# Altium schematic symbol library MCU_Texas_MSP430.SchLib: 361 symbols (part 5 of 7)
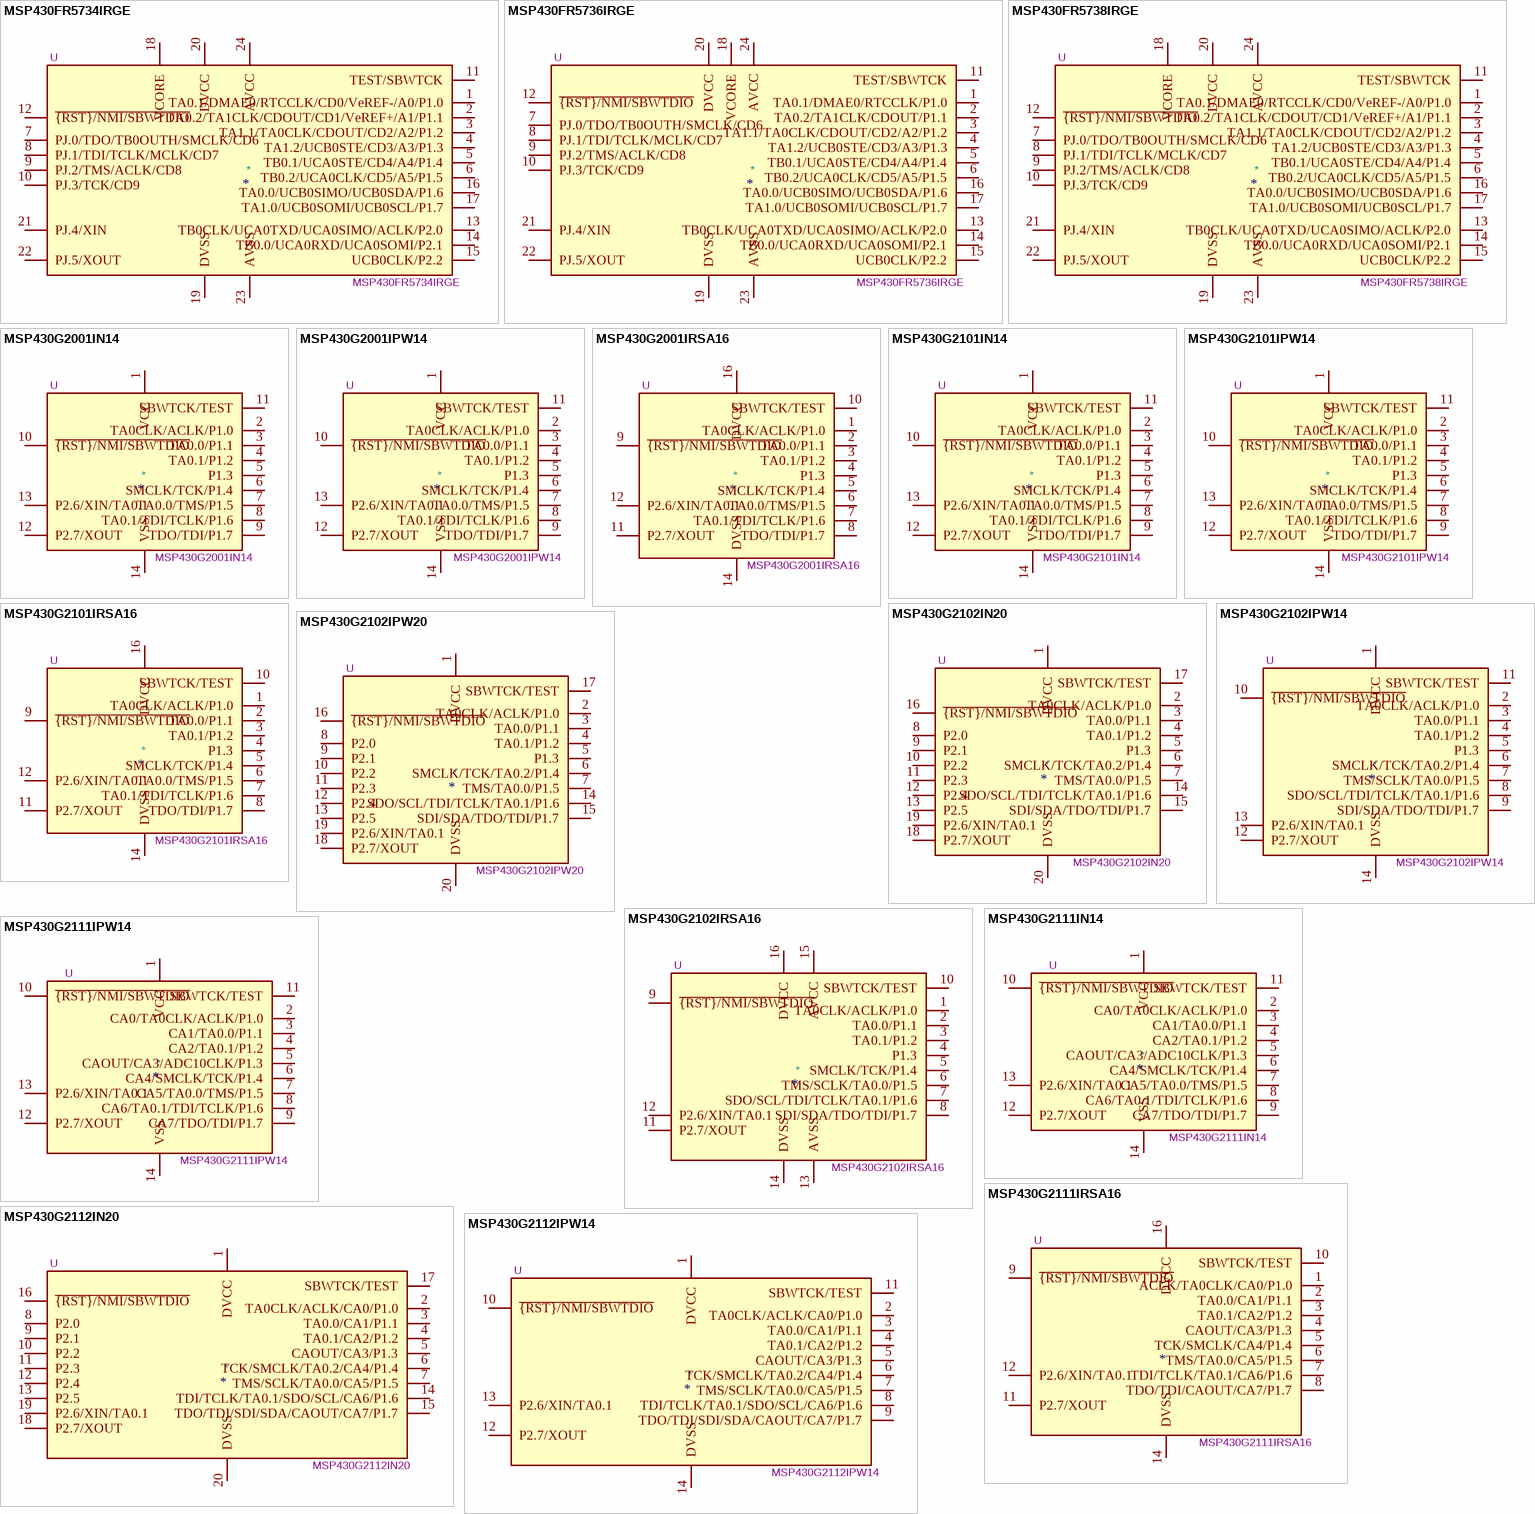
[diagram p38: symbols MSP430FR5734IRGE to MSP430G2112IPW14]

## MSP430G2001IPW14
designator *  value MSP430G2001IPW14  Reference: U
ki_keywords: TI MSP430 16-bit mixed signal microcontroller; ki_description: 512B Flash, 128B RAM, TSSOP-14; ki_fp_filters: TSSOP*4.4x5mm*P0.65mm*; Footprint: Package_SO:TSSOP-14_4.4x5mm_P0.65mm; Datasheet: http://www.ti.com/lit/ds/symlink/msp430g2001.pdf
pins: 1 VCC, 2 TA0CLK/ACLK/P1.0, 3 TA0.0/P1.1, 4 TA0.1/P1.2, 5 P1.3, 6 SMCLK/TCK/P1.4, 7 TA0.0/TMS/P1.5, 8 TA0.1/TDI/TCLK/P1.6, 9 TDO/TDI/P1.7, 10 ~{{RST}/NMI/SBWTDIO}, 11 SBWTCK/TEST, 12 P2.7/XOUT, 13 P2.6/XIN/TA0.1, 14 VSS

## MSP430G2001IRSA16
designator *  value MSP430G2001IRSA16  Reference: U
ki_keywords: TI MSP430 16-bit mixed signal microcontroller; ki_description: 512B Flash, 128B RAM, QFN-16; ki_fp_filters: Texas*S?PVQFN*; Footprint: Package_DFN_QFN:Texas_S-PVQFN-N16_EP2.7x2.7mm; Datasheet: http://www.ti.com/lit/ds/symlink/msp430g2001.pdf
pins: 1 TA0CLK/ACLK/P1.0, 2 TA0.0/P1.1, 3 TA0.1/P1.2, 4 P1.3, 5 SMCLK/TCK/P1.4, 6 TA0.0/TMS/P1.5, 7 TA0.1/TDI/TCLK/P1.6, 8 TDO/TDI/P1.7, 9 ~{{RST}/NMI/SBWTDIO}, 10 SBWTCK/TEST, 11 P2.7/XOUT, 12 P2.6/XIN/TA0.1, 14 DVSS, 16 DVCC

## MSP430G2101IN14
designator *  value MSP430G2101IN14  Reference: U
ki_keywords: TI MSP430 16-bit mixed signal microcontroller; ki_description: 1kB Flash, 128B RAM, DIP-14; ki_fp_filters: DIP*W7.62mm*; Footprint: Package_DIP:DIP-14_W7.62mm; Datasheet: http://www.ti.com/lit/ds/symlink/msp430g2101.pdf
pins: 1 VCC, 2 TA0CLK/ACLK/P1.0, 3 TA0.0/P1.1, 4 TA0.1/P1.2, 5 P1.3, 6 SMCLK/TCK/P1.4, 7 TA0.0/TMS/P1.5, 8 TA0.1/TDI/TCLK/P1.6, 9 TDO/TDI/P1.7, 10 ~{{RST}/NMI/SBWTDIO}, 11 SBWTCK/TEST, 12 P2.7/XOUT, 13 P2.6/XIN/TA0.1, 14 VSS

## MSP430G2101IPW14
designator *  value MSP430G2101IPW14  Reference: U
ki_keywords: TI MSP430 16-bit mixed signal microcontroller; ki_description: 1kB Flash, 128B RAM, TSSOP-14; ki_fp_filters: TSSOP*4.4x5mm*P0.65mm*; Footprint: Package_SO:TSSOP-14_4.4x5mm_P0.65mm; Datasheet: http://www.ti.com/lit/ds/symlink/msp430g2101.pdf
pins: 1 VCC, 2 TA0CLK/ACLK/P1.0, 3 TA0.0/P1.1, 4 TA0.1/P1.2, 5 P1.3, 6 SMCLK/TCK/P1.4, 7 TA0.0/TMS/P1.5, 8 TA0.1/TDI/TCLK/P1.6, 9 TDO/TDI/P1.7, 10 ~{{RST}/NMI/SBWTDIO}, 11 SBWTCK/TEST, 12 P2.7/XOUT, 13 P2.6/XIN/TA0.1, 14 VSS

## MSP430G2101IRSA16
designator *  value MSP430G2101IRSA16  Reference: U
ki_keywords: TI MSP430 16-bit mixed signal microcontroller; ki_description: 1kB Flash, 128B RAM, QFN-16; ki_fp_filters: Texas*S?PVQFN*; Footprint: Package_DFN_QFN:Texas_S-PVQFN-N16_EP2.7x2.7mm; Datasheet: http://www.ti.com/lit/ds/symlink/msp430g2101.pdf
pins: 1 TA0CLK/ACLK/P1.0, 2 TA0.0/P1.1, 3 TA0.1/P1.2, 4 P1.3, 5 SMCLK/TCK/P1.4, 6 TA0.0/TMS/P1.5, 7 TA0.1/TDI/TCLK/P1.6, 8 TDO/TDI/P1.7, 9 ~{{RST}/NMI/SBWTDIO}, 10 SBWTCK/TEST, 11 P2.7/XOUT, 12 P2.6/XIN/TA0.1, 14 DVSS, 16 DVCC

## MSP430G2102IN20
designator *  value MSP430G2102IN20  Reference: U
ki_keywords: TI MSP430 16-bit mixed signal microcontroller; ki_description: 1kB Flash, 128B RAM, DIP-20; ki_fp_filters: DIP*W7.62mm*; Footprint: Package_DIP:DIP-20_W7.62mm; Datasheet: http://www.ti.com/lit/ds/symlink/msp430g2102.pdf
pins: 1 DVCC, 2 TA0CLK/ACLK/P1.0, 3 TA0.0/P1.1, 4 TA0.1/P1.2, 5 P1.3, 6 SMCLK/TCK/TA0.2/P1.4, 7 TMS/TA0.0/P1.5, 8 P2.0, 9 P2.1, 10 P2.2, 11 P2.3, 12 P2.4, 13 P2.5, 14 SDO/SCL/TDI/TCLK/TA0.1/P1.6, 15 SDI/SDA/TDO/TDI/P1.7, 16 ~{{RST}/NMI/SBWTDIO}, 17 SBWTCK/TEST, 18 P2.7/XOUT, 19 P2.6/XIN/TA0.1, 20 DVSS

## MSP430G2102IPW14
designator *  value MSP430G2102IPW14  Reference: U
ki_keywords: TI MSP430 16-bit mixed signal microcontroller; ki_description: 1kB Flash, 128B RAM, TSSOP-14; ki_fp_filters: TSSOP*4.4x5mm*P0.65mm*; Footprint: Package_SO:TSSOP-14_4.4x5mm_P0.65mm; Datasheet: http://www.ti.com/lit/ds/symlink/msp430g2102.pdf
pins: 1 DVCC, 2 TA0CLK/ACLK/P1.0, 3 TA0.0/P1.1, 4 TA0.1/P1.2, 5 P1.3, 6 SMCLK/TCK/TA0.2/P1.4, 7 TMS/SCLK/TA0.0/P1.5, 8 SDO/SCL/TDI/TCLK/TA0.1/P1.6, 9 SDI/SDA/TDO/TDI/P1.7, 10 ~{{RST}/NMI/SBWTDIO}, 11 SBWTCK/TEST, 12 P2.7/XOUT, 13 P2.6/XIN/TA0.1, 14 DVSS

## MSP430G2102IPW20
designator *  value MSP430G2102IPW20  Reference: U
ki_keywords: TI MSP430 16-bit mixed signal microcontroller; ki_description: 1kB Flash, 128B RAM, TSSOP-20; ki_fp_filters: TSSOP*4.4x6.5mm*P0.65mm*; Footprint: Package_SO:TSSOP-20_4.4x6.5mm_P0.65mm; Datasheet: http://www.ti.com/lit/ds/symlink/msp430g2102.pdf
pins: 1 DVCC, 2 TA0CLK/ACLK/P1.0, 3 TA0.0/P1.1, 4 TA0.1/P1.2, 5 P1.3, 6 SMCLK/TCK/TA0.2/P1.4, 7 TMS/TA0.0/P1.5, 8 P2.0, 9 P2.1, 10 P2.2, 11 P2.3, 12 P2.4, 13 P2.5, 14 SDO/SCL/TDI/TCLK/TA0.1/P1.6, 15 SDI/SDA/TDO/TDI/P1.7, 16 ~{{RST}/NMI/SBWTDIO}, 17 SBWTCK/TEST, 18 P2.7/XOUT, 19 P2.6/XIN/TA0.1, 20 DVSS

## MSP430G2102IRSA16
designator *  value MSP430G2102IRSA16  Reference: U
ki_keywords: TI MSP430 16-bit mixed signal microcontroller; ki_description: 1kB Flash, 128B RAM, QFN-16; ki_fp_filters: Texas*S?PVQFN*; Footprint: Package_DFN_QFN:Texas_S-PVQFN-N16_EP2.7x2.7mm; Datasheet: http://www.ti.com/lit/ds/symlink/msp430g2102.pdf
pins: 1 TA0CLK/ACLK/P1.0, 2 TA0.0/P1.1, 3 TA0.1/P1.2, 4 P1.3, 5 SMCLK/TCK/P1.4, 6 TMS/SCLK/TA0.0/P1.5, 7 SDO/SCL/TDI/TCLK/TA0.1/P1.6, 8 SDI/SDA/TDO/TDI/P1.7, 9 ~{{RST}/NMI/SBWTDIO}, 10 SBWTCK/TEST, 11 P2.7/XOUT, 12 P2.6/XIN/TA0.1, 13 AVSS, 14 DVSS, 15 AVCC, 16 DVCC

## MSP430G2111IN14
designator *  value MSP430G2111IN14  Reference: U
ki_keywords: TI MSP430 16-bit mixed signal microcontroller; ki_description: 1kB Flash, 128B RAM, DIP-14; ki_fp_filters: TSSOP*4.4x5mm*P0.65mm*; Footprint: Package_SO:TSSOP-14_4.4x5mm_P0.65mm; Datasheet: http://www.ti.com/lit/ds/symlink/msp430g2111.pdf
pins: 1 VCC, 2 CA0/TA0CLK/ACLK/P1.0, 3 CA1/TA0.0/P1.1, 4 CA2/TA0.1/P1.2, 5 CAOUT/CA3/ADC10CLK/P1.3, 6 CA4/SMCLK/TCK/P1.4, 7 CA5/TA0.0/TMS/P1.5, 8 CA6/TA0.1/TDI/TCLK/P1.6, 9 CA7/TDO/TDI/P1.7, 10 ~{{RST}/NMI/SBWTDIO}, 11 SBWTCK/TEST, 12 P2.7/XOUT, 13 P2.6/XIN/TA0.1, 14 VSS

## MSP430G2111IPW14
designator *  value MSP430G2111IPW14  Reference: U
ki_keywords: TI MSP430 16-bit mixed signal microcontroller; ki_description: 1kB Flash, 128B RAM, TSSOP-14; ki_fp_filters: TSSOP*4.4x5mm*P0.65mm*; Footprint: Package_SO:TSSOP-14_4.4x5mm_P0.65mm; Datasheet: http://www.ti.com/lit/ds/symlink/msp430g2111.pdf
pins: 1 VCC, 2 CA0/TA0CLK/ACLK/P1.0, 3 CA1/TA0.0/P1.1, 4 CA2/TA0.1/P1.2, 5 CAOUT/CA3/ADC10CLK/P1.3, 6 CA4/SMCLK/TCK/P1.4, 7 CA5/TA0.0/TMS/P1.5, 8 CA6/TA0.1/TDI/TCLK/P1.6, 9 CA7/TDO/TDI/P1.7, 10 ~{{RST}/NMI/SBWTDIO}, 11 SBWTCK/TEST, 12 P2.7/XOUT, 13 P2.6/XIN/TA0.1, 14 VSS

## MSP430G2111IRSA16
designator *  value MSP430G2111IRSA16  Reference: U
ki_keywords: TI MSP430 16-bit mixed signal microcontroller; ki_description: 1kB Flash, 128B RAM, QFN-16; ki_fp_filters: Texas*S?PVQFN*; Footprint: Package_DFN_QFN:Texas_S-PVQFN-N16_EP2.7x2.7mm; Datasheet: http://www.ti.com/lit/ds/symlink/msp430g2111.pdf
pins: 1 ACLK/TA0CLK/CA0/P1.0, 2 TA0.0/CA1/P1.1, 3 TA0.1/CA2/P1.2, 4 CAOUT/CA3/P1.3, 5 TCK/SMCLK/CA4/P1.4, 6 TMS/TA0.0/CA5/P1.5, 7 TDI/TCLK/TA0.1/CA6/P1.6, 8 TDO/TDI/CAOUT/CA7/P1.7, 9 ~{{RST}/NMI/SBWTDIO}, 10 SBWTCK/TEST, 11 P2.7/XOUT, 12 P2.6/XIN/TA0.1, 14 DVSS, 16 DVCC

## MSP430G2112IN20
designator *  value MSP430G2112IN20  Reference: U
ki_keywords: TI MSP430 16-bit mixed signal microcontroller; ki_description: 1kB Flash, 128B RAM, DIP-20; ki_fp_filters: DIP*W7.62mm*; Footprint: Package_DIP:DIP-20_W7.62mm; Datasheet: http://www.ti.com/lit/ds/symlink/msp430g2112.pdf
pins: 1 DVCC, 2 TA0CLK/ACLK/CA0/P1.0, 3 TA0.0/CA1/P1.1, 4 TA0.1/CA2/P1.2, 5 CAOUT/CA3/P1.3, 6 TCK/SMCLK/TA0.2/CA4/P1.4, 7 TMS/SCLK/TA0.0/CA5/P1.5, 8 P2.0, 9 P2.1, 10 P2.2, 11 P2.3, 12 P2.4, 13 P2.5, 14 TDI/TCLK/TA0.1/SDO/SCL/CA6/P1.6, 15 TDO/TDI/SDI/SDA/CAOUT/CA7/P1.7, 16 ~{{RST}/NMI/SBWTDIO}, 17 SBWTCK/TEST, 18 P2.7/XOUT, 19 P2.6/XIN/TA0.1, 20 DVSS

## MSP430G2112IPW14
designator *  value MSP430G2112IPW14  Reference: U
ki_keywords: TI MSP430 16-bit mixed signal microcontroller; ki_description: 1kB Flash, 128B RAM, TSSOP-14; ki_fp_filters: TSSOP*4.4x5mm*P0.65mm*; Footprint: Package_SO:TSSOP-14_4.4x5mm_P0.65mm; Datasheet: http://www.ti.com/lit/ds/symlink/msp430g2112.pdf
pins: 1 DVCC, 2 TA0CLK/ACLK/CA0/P1.0, 3 TA0.0/CA1/P1.1, 4 TA0.1/CA2/P1.2, 5 CAOUT/CA3/P1.3, 6 TCK/SMCLK/TA0.2/CA4/P1.4, 7 TMS/SCLK/TA0.0/CA5/P1.5, 8 TDI/TCLK/TA0.1/SDO/SCL/CA6/P1.6, 9 TDO/TDI/SDI/SDA/CAOUT/CA7/P1.7, 10 ~{{RST}/NMI/SBWTDIO}, 11 SBWTCK/TEST, 12 P2.7/XOUT, 13 P2.6/XIN/TA0.1, 14 DVSS

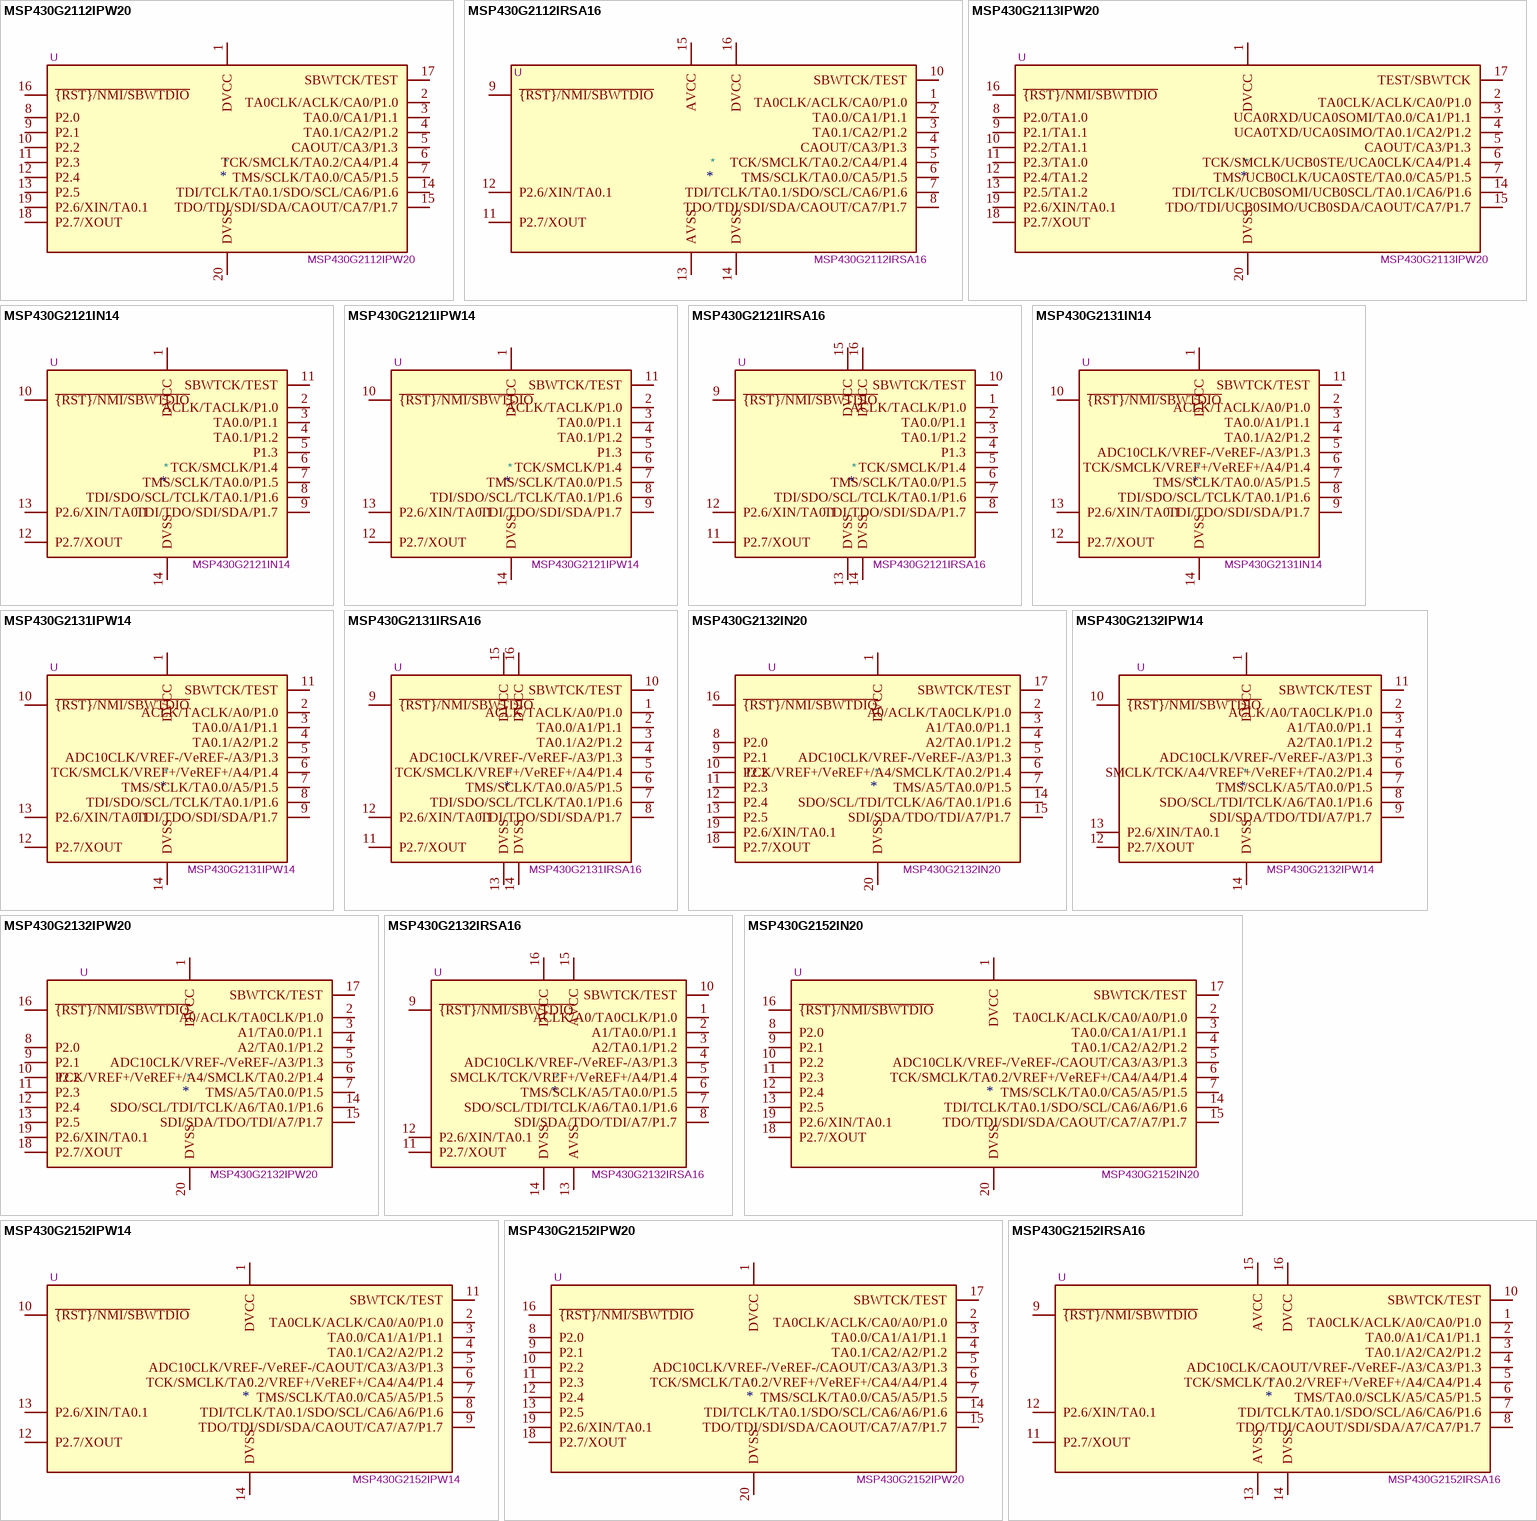
[diagram p22: symbols MSP430G2112IPW20 to MSP430G2152IRSA16]

## MSP430G2112IPW20
designator *  value MSP430G2112IPW20  Reference: U
ki_keywords: TI MSP430 16-bit mixed signal microcontroller; ki_description: 1kB Flash, 128B RAM, TSSOP-20; ki_fp_filters: TSSOP*4.4x6.5mm*P0.65mm*; Footprint: Package_SO:TSSOP-20_4.4x6.5mm_P0.65mm; Datasheet: http://www.ti.com/lit/ds/symlink/msp430g2112.pdf
pins: 1 DVCC, 2 TA0CLK/ACLK/CA0/P1.0, 3 TA0.0/CA1/P1.1, 4 TA0.1/CA2/P1.2, 5 CAOUT/CA3/P1.3, 6 TCK/SMCLK/TA0.2/CA4/P1.4, 7 TMS/SCLK/TA0.0/CA5/P1.5, 8 P2.0, 9 P2.1, 10 P2.2, 11 P2.3, 12 P2.4, 13 P2.5, 14 TDI/TCLK/TA0.1/SDO/SCL/CA6/P1.6, 15 TDO/TDI/SDI/SDA/CAOUT/CA7/P1.7, 16 ~{{RST}/NMI/SBWTDIO}, 17 SBWTCK/TEST, 18 P2.7/XOUT, 19 P2.6/XIN/TA0.1, 20 DVSS

## MSP430G2112IRSA16
designator *  value MSP430G2112IRSA16  Reference: U
ki_keywords: TI MSP430 16-bit mixed signal microcontroller; ki_description: 1kB Flash, 128B RAM, QFN-16; ki_fp_filters: Texas*S?PVQFN*; Footprint: Package_DFN_QFN:Texas_S-PVQFN-N16_EP2.7x2.7mm; Datasheet: http://www.ti.com/lit/ds/symlink/msp430g2112.pdf
pins: 1 TA0CLK/ACLK/CA0/P1.0, 2 TA0.0/CA1/P1.1, 3 TA0.1/CA2/P1.2, 4 CAOUT/CA3/P1.3, 5 TCK/SMCLK/TA0.2/CA4/P1.4, 6 TMS/SCLK/TA0.0/CA5/P1.5, 7 TDI/TCLK/TA0.1/SDO/SCL/CA6/P1.6, 8 TDO/TDI/SDI/SDA/CAOUT/CA7/P1.7, 9 ~{{RST}/NMI/SBWTDIO}, 10 SBWTCK/TEST, 11 P2.7/XOUT, 12 P2.6/XIN/TA0.1, 13 AVSS, 14 DVSS, 15 AVCC, 16 DVCC

## MSP430G2113IPW20
designator *  value MSP430G2113IPW20  Reference: U
ki_keywords: TI MSP430 16-bit mixed signal microcontroller; ki_description: 1kB Flash, 256B RAM, TSSOP-20; ki_fp_filters: TSSOP*4.4x6.5mm*P0.65mm*; Footprint: Package_SO:TSSOP-20_4.4x6.5mm_P0.65mm; Datasheet: http://www.ti.com/lit/ds/symlink/msp430g2153.pdf
pins: 1 DVCC, 2 TA0CLK/ACLK/CA0/P1.0, 3 UCA0RXD/UCA0SOMI/TA0.0/CA1/P1.1, 4 UCA0TXD/UCA0SIMO/TA0.1/CA2/P1.2, 5 CAOUT/CA3/P1.3, 6 TCK/SMCLK/UCB0STE/UCA0CLK/CA4/P1.4, 7 TMS/UCB0CLK/UCA0STE/TA0.0/CA5/P1.5, 8 P2.0/TA1.0, 9 P2.1/TA1.1, 10 P2.2/TA1.1, 11 P2.3/TA1.0, 12 P2.4/TA1.2, 13 P2.5/TA1.2, 14 TDI/TCLK/UCB0SOMI/UCB0SCL/TA0.1/CA6/P1.6, 15 TDO/TDI/UCB0SIMO/UCB0SDA/CAOUT/CA7/P1.7, 16 ~{{RST}/NMI/SBWTDIO}, 17 TEST/SBWTCK, 18 P2.7/XOUT, 19 P2.6/XIN/TA0.1, 20 DVSS

## MSP430G2121IN14
designator *  value MSP430G2121IN14  Reference: U
ki_keywords: TI MSP430 16-bit mixed signal microcontroller; ki_description: 1kB Flash, 128B RAM, DIP-14; ki_fp_filters: TSSOP*4.4x5mm*P0.65mm*; Footprint: Package_SO:TSSOP-14_4.4x5mm_P0.65mm; Datasheet: http://www.ti.com/lit/ds/symlink/msp430g2121.pdf
pins: 1 DVCC, 2 ACLK/TACLK/P1.0, 3 TA0.0/P1.1, 4 TA0.1/P1.2, 5 P1.3, 6 TCK/SMCLK/P1.4, 7 TMS/SCLK/TA0.0/P1.5, 8 TDI/SDO/SCL/TCLK/TA0.1/P1.6, 9 TDI/TDO/SDI/SDA/P1.7, 10 ~{{RST}/NMI/SBWTDIO}, 11 SBWTCK/TEST, 12 P2.7/XOUT, 13 P2.6/XIN/TA0.1, 14 DVSS

## MSP430G2121IPW14
designator *  value MSP430G2121IPW14  Reference: U
ki_keywords: TI MSP430 16-bit mixed signal microcontroller; ki_description: 1kB Flash, 128B RAM, TSSOP-14; ki_fp_filters: TSSOP*4.4x5mm*P0.65mm*; Footprint: Package_SO:TSSOP-14_4.4x5mm_P0.65mm; Datasheet: http://www.ti.com/lit/ds/symlink/msp430g2121.pdf
pins: 1 DVCC, 2 ACLK/TACLK/P1.0, 3 TA0.0/P1.1, 4 TA0.1/P1.2, 5 P1.3, 6 TCK/SMCLK/P1.4, 7 TMS/SCLK/TA0.0/P1.5, 8 TDI/SDO/SCL/TCLK/TA0.1/P1.6, 9 TDI/TDO/SDI/SDA/P1.7, 10 ~{{RST}/NMI/SBWTDIO}, 11 SBWTCK/TEST, 12 P2.7/XOUT, 13 P2.6/XIN/TA0.1, 14 DVSS

## MSP430G2121IRSA16
designator *  value MSP430G2121IRSA16  Reference: U
ki_keywords: TI MSP430 16-bit mixed signal microcontroller; ki_description: 1kB Flash, 128B RAM, QFN-16; ki_fp_filters: Texas*S?PVQFN*; Footprint: Package_DFN_QFN:Texas_S-PVQFN-N16_EP2.7x2.7mm; Datasheet: http://www.ti.com/lit/ds/symlink/msp430g2121.pdf
pins: 1 ACLK/TACLK/P1.0, 2 TA0.0/P1.1, 3 TA0.1/P1.2, 4 P1.3, 5 TCK/SMCLK/P1.4, 6 TMS/SCLK/TA0.0/P1.5, 7 TDI/SDO/SCL/TCLK/TA0.1/P1.6, 8 TDI/TDO/SDI/SDA/P1.7, 9 ~{{RST}/NMI/SBWTDIO}, 10 SBWTCK/TEST, 11 P2.7/XOUT, 12 P2.6/XIN/TA0.1, 13 DVSS, 14 DVSS, 15 DVCC, 16 DVCC

## MSP430G2131IN14
designator *  value MSP430G2131IN14  Reference: U
ki_keywords: TI MSP430 16-bit mixed signal microcontroller; ki_description: 1kB Flash, 128B RAM, DIP-14; ki_fp_filters: TSSOP*4.4x5mm*P0.65mm*; Footprint: Package_SO:TSSOP-14_4.4x5mm_P0.65mm; Datasheet: http://www.ti.com/lit/ds/symlink/msp430g2131.pdf
pins: 1 DVCC, 2 ACLK/TACLK/A0/P1.0, 3 TA0.0/A1/P1.1, 4 TA0.1/A2/P1.2, 5 ADC10CLK/VREF-/VeREF-/A3/P1.3, 6 TCK/SMCLK/VREF+/VeREF+/A4/P1.4, 7 TMS/SCLK/TA0.0/A5/P1.5, 8 TDI/SDO/SCL/TCLK/TA0.1/P1.6, 9 TDI/TDO/SDI/SDA/P1.7, 10 ~{{RST}/NMI/SBWTDIO}, 11 SBWTCK/TEST, 12 P2.7/XOUT, 13 P2.6/XIN/TA0.1, 14 DVSS

## MSP430G2131IPW14
designator *  value MSP430G2131IPW14  Reference: U
ki_keywords: TI MSP430 16-bit mixed signal microcontroller; ki_description: 1kB Flash, 128B RAM, TSSOP-14; ki_fp_filters: TSSOP*4.4x5mm*P0.65mm*; Footprint: Package_SO:TSSOP-14_4.4x5mm_P0.65mm; Datasheet: http://www.ti.com/lit/ds/symlink/msp430g2131.pdf
pins: 1 DVCC, 2 ACLK/TACLK/A0/P1.0, 3 TA0.0/A1/P1.1, 4 TA0.1/A2/P1.2, 5 ADC10CLK/VREF-/VeREF-/A3/P1.3, 6 TCK/SMCLK/VREF+/VeREF+/A4/P1.4, 7 TMS/SCLK/TA0.0/A5/P1.5, 8 TDI/SDO/SCL/TCLK/TA0.1/P1.6, 9 TDI/TDO/SDI/SDA/P1.7, 10 ~{{RST}/NMI/SBWTDIO}, 11 SBWTCK/TEST, 12 P2.7/XOUT, 13 P2.6/XIN/TA0.1, 14 DVSS

## MSP430G2131IRSA16
designator *  value MSP430G2131IRSA16  Reference: U
ki_keywords: TI MSP430 16-bit mixed signal microcontroller; ki_description: 1kB Flash, 128B RAM, QFN-16; ki_fp_filters: Texas*S?PVQFN*; Footprint: Package_DFN_QFN:Texas_S-PVQFN-N16_EP2.7x2.7mm; Datasheet: http://www.ti.com/lit/ds/symlink/msp430g2131.pdf
pins: 1 ACLK/TACLK/A0/P1.0, 2 TA0.0/A1/P1.1, 3 TA0.1/A2/P1.2, 4 ADC10CLK/VREF-/VeREF-/A3/P1.3, 5 TCK/SMCLK/VREF+/VeREF+/A4/P1.4, 6 TMS/SCLK/TA0.0/A5/P1.5, 7 TDI/SDO/SCL/TCLK/TA0.1/P1.6, 8 TDI/TDO/SDI/SDA/P1.7, 9 ~{{RST}/NMI/SBWTDIO}, 10 SBWTCK/TEST, 11 P2.7/XOUT, 12 P2.6/XIN/TA0.1, 13 DVSS, 14 DVSS, 15 DVCC, 16 DVCC

## MSP430G2132IN20
designator *  value MSP430G2132IN20  Reference: U
ki_keywords: TI MSP430 16-bit mixed signal microcontroller; ki_description: 1kB Flash, 128B RAM, DIP-20; ki_fp_filters: DIP*W7.62mm*; Footprint: Package_DIP:DIP-20_W7.62mm; Datasheet: http://www.ti.com/lit/ds/symlink/msp430g2132.pdf
pins: 1 DVCC, 2 A0/ACLK/TA0CLK/P1.0, 3 A1/TA0.0/P1.1, 4 A2/TA0.1/P1.2, 5 ADC10CLK/VREF-/VeREF-/A3/P1.3, 6 TCK/VREF+/VeREF+/A4/SMCLK/TA0.2/P1.4, 7 TMS/A5/TA0.0/P1.5, 8 P2.0, 9 P2.1, 10 P2.2, 11 P2.3, 12 P2.4, 13 P2.5, 14 SDO/SCL/TDI/TCLK/A6/TA0.1/P1.6, 15 SDI/SDA/TDO/TDI/A7/P1.7, 16 ~{{RST}/NMI/SBWTDIO}, 17 SBWTCK/TEST, 18 P2.7/XOUT, 19 P2.6/XIN/TA0.1, 20 DVSS

## MSP430G2132IPW14
designator *  value MSP430G2132IPW14  Reference: U
ki_keywords: TI MSP430 16-bit mixed signal microcontroller; ki_description: 1kB Flash, 128B RAM, TSSOP-14; ki_fp_filters: TSSOP*4.4x5mm*P0.65mm*; Footprint: Package_SO:TSSOP-14_4.4x5mm_P0.65mm; Datasheet: http://www.ti.com/lit/ds/symlink/msp430g2132.pdf
pins: 1 DVCC, 2 ACLK/A0/TA0CLK/P1.0, 3 A1/TA0.0/P1.1, 4 A2/TA0.1/P1.2, 5 ADC10CLK/VREF-/VeREF-/A3/P1.3, 6 SMCLK/TCK/A4/VREF+/VeREF+/TA0.2/P1.4, 7 TMS/SCLK/A5/TA0.0/P1.5, 8 SDO/SCL/TDI/TCLK/A6/TA0.1/P1.6, 9 SDI/SDA/TDO/TDI/A7/P1.7, 10 ~{{RST}/NMI/SBWTDIO}, 11 SBWTCK/TEST, 12 P2.7/XOUT, 13 P2.6/XIN/TA0.1, 14 DVSS

## MSP430G2132IPW20
designator *  value MSP430G2132IPW20  Reference: U
ki_keywords: TI MSP430 16-bit mixed signal microcontroller; ki_description: 1kB Flash, 128B RAM, TSSOP-20; ki_fp_filters: TSSOP*4.4x6.5mm*P0.65mm*; Footprint: Package_SO:TSSOP-20_4.4x6.5mm_P0.65mm; Datasheet: http://www.ti.com/lit/ds/symlink/msp430g2132.pdf
pins: 1 DVCC, 2 A0/ACLK/TA0CLK/P1.0, 3 A1/TA0.0/P1.1, 4 A2/TA0.1/P1.2, 5 ADC10CLK/VREF-/VeREF-/A3/P1.3, 6 TCK/VREF+/VeREF+/A4/SMCLK/TA0.2/P1.4, 7 TMS/A5/TA0.0/P1.5, 8 P2.0, 9 P2.1, 10 P2.2, 11 P2.3, 12 P2.4, 13 P2.5, 14 SDO/SCL/TDI/TCLK/A6/TA0.1/P1.6, 15 SDI/SDA/TDO/TDI/A7/P1.7, 16 ~{{RST}/NMI/SBWTDIO}, 17 SBWTCK/TEST, 18 P2.7/XOUT, 19 P2.6/XIN/TA0.1, 20 DVSS

## MSP430G2132IRSA16
designator *  value MSP430G2132IRSA16  Reference: U
ki_keywords: TI MSP430 16-bit mixed signal microcontroller; ki_description: 1kB Flash, 128B RAM, QFN-16; ki_fp_filters: Texas*S?PVQFN*; Footprint: Package_DFN_QFN:Texas_S-PVQFN-N16_EP2.7x2.7mm; Datasheet: http://www.ti.com/lit/ds/symlink/msp430g2132.pdf
pins: 1 ACLK/A0/TA0CLK/P1.0, 2 A1/TA0.0/P1.1, 3 A2/TA0.1/P1.2, 4 ADC10CLK/VREF-/VeREF-/A3/P1.3, 5 SMCLK/TCK/VREF+/VeREF+/A4/P1.4, 6 TMS/SCLK/A5/TA0.0/P1.5, 7 SDO/SCL/TDI/TCLK/A6/TA0.1/P1.6, 8 SDI/SDA/TDO/TDI/A7/P1.7, 9 ~{{RST}/NMI/SBWTDIO}, 10 SBWTCK/TEST, 11 P2.7/XOUT, 12 P2.6/XIN/TA0.1, 13 AVSS, 14 DVSS, 15 AVCC, 16 DVCC

## MSP430G2152IN20
designator *  value MSP430G2152IN20  Reference: U
ki_keywords: TI MSP430 16-bit mixed signal microcontroller; ki_description: 1kB Flash, 128B RAM, DIP-20; ki_fp_filters: DIP*W7.62mm*; Footprint: Package_DIP:DIP-20_W7.62mm; Datasheet: http://www.ti.com/lit/ds/symlink/msp430g2152.pdf
pins: 1 DVCC, 2 TA0CLK/ACLK/CA0/A0/P1.0, 3 TA0.0/CA1/A1/P1.1, 4 TA0.1/CA2/A2/P1.2, 5 ADC10CLK/VREF-/VeREF-/CAOUT/CA3/A3/P1.3, 6 TCK/SMCLK/TA0.2/VREF+/VeREF+/CA4/A4/P1.4, 7 TMS/SCLK/TA0.0/CA5/A5/P1.5, 8 P2.0, 9 P2.1, 10 P2.2, 11 P2.3, 12 P2.4, 13 P2.5, 14 TDI/TCLK/TA0.1/SDO/SCL/CA6/A6/P1.6, 15 TDO/TDI/SDI/SDA/CAOUT/CA7/A7/P1.7, 16 ~{{RST}/NMI/SBWTDIO}, 17 SBWTCK/TEST, 18 P2.7/XOUT, 19 P2.6/XIN/TA0.1, 20 DVSS

## MSP430G2152IPW14
designator *  value MSP430G2152IPW14  Reference: U
ki_keywords: TI MSP430 16-bit mixed signal microcontroller; ki_description: 1kB Flash, 128B RAM, TSSOP-14; ki_fp_filters: TSSOP*4.4x5mm*P0.65mm*; Footprint: Package_SO:TSSOP-14_4.4x5mm_P0.65mm; Datasheet: http://www.ti.com/lit/ds/symlink/msp430g2152.pdf
pins: 1 DVCC, 2 TA0CLK/ACLK/CA0/A0/P1.0, 3 TA0.0/CA1/A1/P1.1, 4 TA0.1/CA2/A2/P1.2, 5 ADC10CLK/VREF-/VeREF-/CAOUT/CA3/A3/P1.3, 6 TCK/SMCLK/TA0.2/VREF+/VeREF+/CA4/A4/P1.4, 7 TMS/SCLK/TA0.0/CA5/A5/P1.5, 8 TDI/TCLK/TA0.1/SDO/SCL/CA6/A6/P1.6, 9 TDO/TDI/SDI/SDA/CAOUT/CA7/A7/P1.7, 10 ~{{RST}/NMI/SBWTDIO}, 11 SBWTCK/TEST, 12 P2.7/XOUT, 13 P2.6/XIN/TA0.1, 14 DVSS

## MSP430G2152IPW20
designator *  value MSP430G2152IPW20  Reference: U
ki_keywords: TI MSP430 16-bit mixed signal microcontroller; ki_description: 1kB Flash, 128B RAM, TSSOP-20; ki_fp_filters: TSSOP*4.4x6.5mm*P0.65mm*; Footprint: Package_SO:TSSOP-20_4.4x6.5mm_P0.65mm; Datasheet: http://www.ti.com/lit/ds/symlink/msp430g2152.pdf
pins: 1 DVCC, 2 TA0CLK/ACLK/CA0/A0/P1.0, 3 TA0.0/CA1/A1/P1.1, 4 TA0.1/CA2/A2/P1.2, 5 ADC10CLK/VREF-/VeREF-/CAOUT/CA3/A3/P1.3, 6 TCK/SMCLK/TA0.2/VREF+/VeREF+/CA4/A4/P1.4, 7 TMS/SCLK/TA0.0/CA5/A5/P1.5, 8 P2.0, 9 P2.1, 10 P2.2, 11 P2.3, 12 P2.4, 13 P2.5, 14 TDI/TCLK/TA0.1/SDO/SCL/CA6/A6/P1.6, 15 TDO/TDI/SDI/SDA/CAOUT/CA7/A7/P1.7, 16 ~{{RST}/NMI/SBWTDIO}, 17 SBWTCK/TEST, 18 P2.7/XOUT, 19 P2.6/XIN/TA0.1, 20 DVSS

## MSP430G2152IRSA16
designator *  value MSP430G2152IRSA16  Reference: U
ki_keywords: TI MSP430 16-bit mixed signal microcontroller; ki_description: 1kB Flash, 128B RAM, QFN-16; ki_fp_filters: Texas*S?PVQFN*; Footprint: Package_DFN_QFN:Texas_S-PVQFN-N16_EP2.7x2.7mm; Datasheet: http://www.ti.com/lit/ds/symlink/msp430g2152.pdf
pins: 1 TA0CLK/ACLK/A0/CA0/P1.0, 2 TA0.0/A1/CA1/P1.1, 3 TA0.1/A2/CA2/P1.2, 4 ADC10CLK/CAOUT/VREF-/VeREF-/A3/CA3/P1.3, 5 TCK/SMCLK/TA0.2/VREF+/VeREF+/A4/CA4/P1.4, 6 TMS/TA0.0/SCLK/A5/CA5/P1.5, 7 TDI/TCLK/TA0.1/SDO/SCL/A6/CA6/P1.6, 8 TDO/TDI/CAOUT/SDI/SDA/A7/CA7/P1.7, 9 ~{{RST}/NMI/SBWTDIO}, 10 SBWTCK/TEST, 11 P2.7/XOUT, 12 P2.6/XIN/TA0.1, 13 AVSS, 14 DVSS, 15 AVCC, 16 DVCC

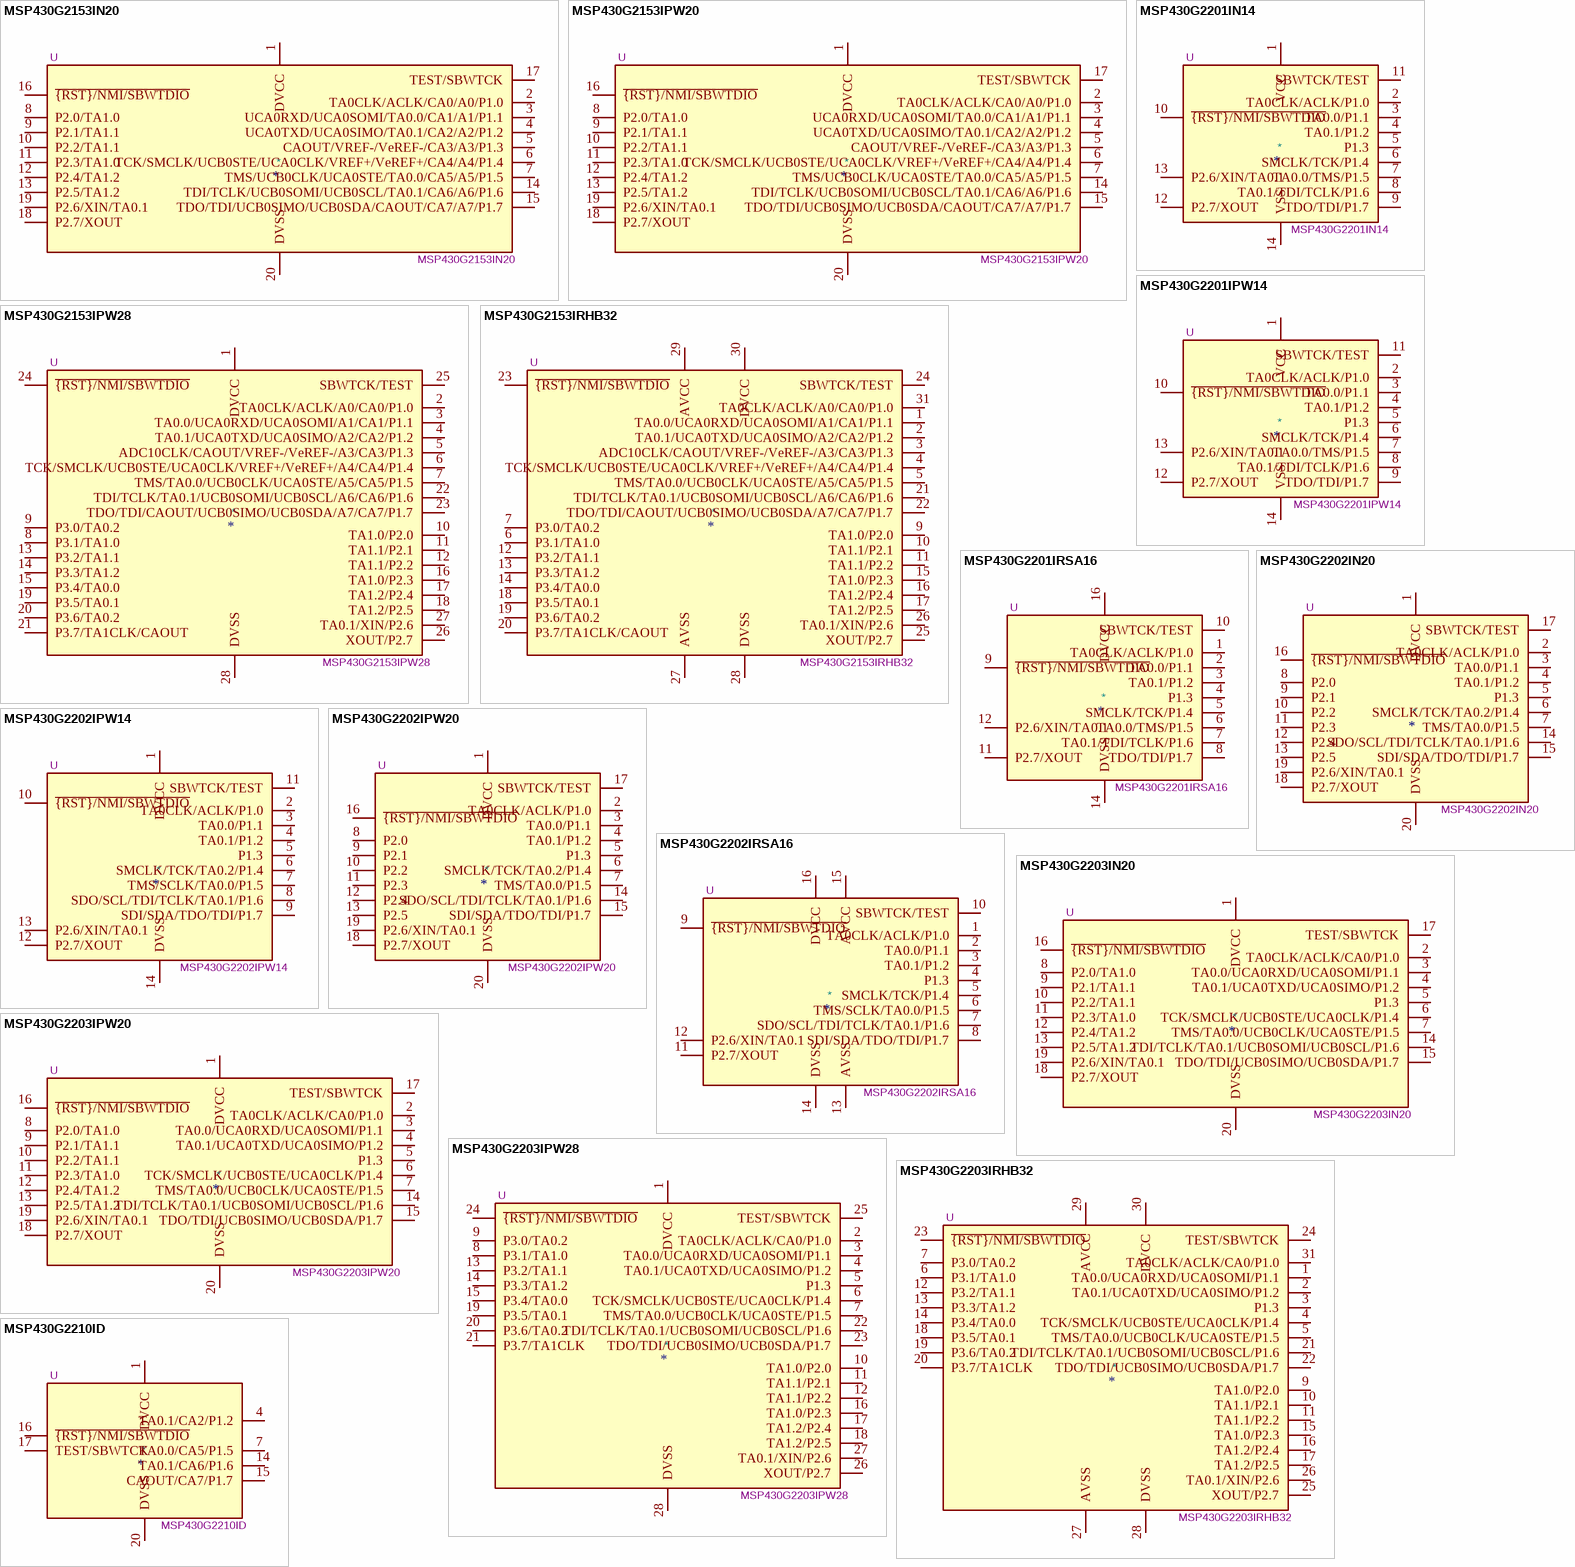
[diagram p23: symbols MSP430G2153IN20 to MSP430G2210ID]

## MSP430G2153IN20
designator *  value MSP430G2153IN20  Reference: U
ki_keywords: TI MSP430 16-bit mixed signal microcontroller; ki_description: 1kB Flash, 256B RAM, DIP-20; ki_fp_filters: DIP*W7.62mm*; Footprint: Package_DIP:DIP-20_W7.62mm; Datasheet: http://www.ti.com/lit/ds/symlink/msp430g2153.pdf
pins: 1 DVCC, 2 TA0CLK/ACLK/CA0/A0/P1.0, 3 UCA0RXD/UCA0SOMI/TA0.0/CA1/A1/P1.1, 4 UCA0TXD/UCA0SIMO/TA0.1/CA2/A2/P1.2, 5 CAOUT/VREF-/VeREF-/CA3/A3/P1.3, 6 TCK/SMCLK/UCB0STE/UCA0CLK/VREF+/VeREF+/CA4/A4/P1.4, 7 TMS/UCB0CLK/UCA0STE/TA0.0/CA5/A5/P1.5, 8 P2.0/TA1.0, 9 P2.1/TA1.1, 10 P2.2/TA1.1, 11 P2.3/TA1.0, 12 P2.4/TA1.2, 13 P2.5/TA1.2, 14 TDI/TCLK/UCB0SOMI/UCB0SCL/TA0.1/CA6/A6/P1.6, 15 TDO/TDI/UCB0SIMO/UCB0SDA/CAOUT/CA7/A7/P1.7, 16 ~{{RST}/NMI/SBWTDIO}, 17 TEST/SBWTCK, 18 P2.7/XOUT, 19 P2.6/XIN/TA0.1, 20 DVSS

## MSP430G2153IPW20
designator *  value MSP430G2153IPW20  Reference: U
ki_keywords: TI MSP430 16-bit mixed signal microcontroller; ki_description: 1kB Flash, 256B RAM, TSSOP-20; ki_fp_filters: TSSOP*4.4x6.5mm*P0.65mm*; Footprint: Package_SO:TSSOP-20_4.4x6.5mm_P0.65mm; Datasheet: http://www.ti.com/lit/ds/symlink/msp430g2153.pdf
pins: 1 DVCC, 2 TA0CLK/ACLK/CA0/A0/P1.0, 3 UCA0RXD/UCA0SOMI/TA0.0/CA1/A1/P1.1, 4 UCA0TXD/UCA0SIMO/TA0.1/CA2/A2/P1.2, 5 CAOUT/VREF-/VeREF-/CA3/A3/P1.3, 6 TCK/SMCLK/UCB0STE/UCA0CLK/VREF+/VeREF+/CA4/A4/P1.4, 7 TMS/UCB0CLK/UCA0STE/TA0.0/CA5/A5/P1.5, 8 P2.0/TA1.0, 9 P2.1/TA1.1, 10 P2.2/TA1.1, 11 P2.3/TA1.0, 12 P2.4/TA1.2, 13 P2.5/TA1.2, 14 TDI/TCLK/UCB0SOMI/UCB0SCL/TA0.1/CA6/A6/P1.6, 15 TDO/TDI/UCB0SIMO/UCB0SDA/CAOUT/CA7/A7/P1.7, 16 ~{{RST}/NMI/SBWTDIO}, 17 TEST/SBWTCK, 18 P2.7/XOUT, 19 P2.6/XIN/TA0.1, 20 DVSS

## MSP430G2153IPW28
designator *  value MSP430G2153IPW28  Reference: U
ki_keywords: TI MSP430 16-bit mixed signal microcontroller; ki_description: 1kB Flash, 256B RAM, TSSOP-28; ki_fp_filters: TSSOP*4.4x9.7mm*P0.65mm*; Footprint: Package_SO:TSSOP-28_4.4x9.7mm_P0.65mm; Datasheet: http://www.ti.com/lit/ds/symlink/msp430g2153.pdf
pins: 1 DVCC, 2 TA0CLK/ACLK/A0/CA0/P1.0, 3 TA0.0/UCA0RXD/UCA0SOMI/A1/CA1/P1.1, 4 TA0.1/UCA0TXD/UCA0SIMO/A2/CA2/P1.2, 5 ADC10CLK/CAOUT/VREF-/VeREF-/A3/CA3/P1.3, 6 TCK/SMCLK/UCB0STE/UCA0CLK/VREF+/VeREF+/A4/CA4/P1.4, 7 TMS/TA0.0/UCB0CLK/UCA0STE/A5/CA5/P1.5, 8 P3.1/TA1.0, 9 P3.0/TA0.2, 10 TA1.0/P2.0, 11 TA1.1/P2.1, 12 TA1.1/P2.2, 13 P3.2/TA1.1, 14 P3.3/TA1.2, 15 P3.4/TA0.0, 16 TA1.0/P2.3, 17 TA1.2/P2.4, 18 TA1.2/P2.5, 19 P3.5/TA0.1, 20 P3.6/TA0.2, 21 P3.7/TA1CLK/CAOUT, 22 TDI/TCLK/TA0.1/UCB0SOMI/UCB0SCL/A6/CA6/P1.6, 23 TDO/TDI/CAOUT/UCB0SIMO/UCB0SDA/A7/CA7/P1.7, 24 ~{{RST}/NMI/SBWTDIO}, 25 SBWTCK/TEST, 26 XOUT/P2.7, 27 TA0.1/XIN/P2.6, 28 DVSS

## MSP430G2153IRHB32
designator *  value MSP430G2153IRHB32  Reference: U
ki_keywords: TI MSP430 16-bit mixed signal microcontroller; ki_description: 1kB Flash, 256B RAM, QFN-32; ki_fp_filters: Texas*S?PVQFN*; Footprint: Package_DFN_QFN:Texas_S-PVQFN-N32_EP3.45x3.45mm; Datasheet: http://www.ti.com/lit/ds/symlink/msp430g2153.pdf
pins: 1 TA0.0/UCA0RXD/UCA0SOMI/A1/CA1/P1.1, 2 TA0.1/UCA0TXD/UCA0SIMO/A2/CA2/P1.2, 3 ADC10CLK/CAOUT/VREF-/VeREF-/A3/CA3/P1.3, 4 TCK/SMCLK/UCB0STE/UCA0CLK/VREF+/VeREF+/A4/CA4/P1.4, 5 TMS/TA0.0/UCB0CLK/UCA0STE/A5/CA5/P1.5, 6 P3.1/TA1.0, 7 P3.0/TA0.2, 9 TA1.0/P2.0, 10 TA1.1/P2.1, 11 TA1.1/P2.2, 12 P3.2/TA1.1, 13 P3.3/TA1.2, 14 P3.4/TA0.0, 15 TA1.0/P2.3, 16 TA1.2/P2.4, 17 TA1.2/P2.5, 18 P3.5/TA0.1, 19 P3.6/TA0.2, 20 P3.7/TA1CLK/CAOUT, 21 TDI/TCLK/TA0.1/UCB0SOMI/UCB0SCL/A6/CA6/P1.6, 22 TDO/TDI/CAOUT/UCB0SIMO/UCB0SDA/A7/CA7/P1.7, 23 ~{{RST}/NMI/SBWTDIO}, 24 SBWTCK/TEST, 25 XOUT/P2.7, 26 TA0.1/XIN/P2.6, 27 AVSS, 28 DVSS, 29 AVCC, 30 DVCC, 31 TA0CLK/ACLK/A0/CA0/P1.0

## MSP430G2201IN14
designator *  value MSP430G2201IN14  Reference: U
ki_keywords: TI MSP430 16-bit mixed signal microcontroller; ki_description: 2kB Flash, 128B RAM, DIP-14; ki_fp_filters: DIP*W7.62mm*; Footprint: Package_DIP:DIP-14_W7.62mm; Datasheet: http://www.ti.com/lit/ds/symlink/msp430g2201.pdf
pins: 1 VCC, 2 TA0CLK/ACLK/P1.0, 3 TA0.0/P1.1, 4 TA0.1/P1.2, 5 P1.3, 6 SMCLK/TCK/P1.4, 7 TA0.0/TMS/P1.5, 8 TA0.1/TDI/TCLK/P1.6, 9 TDO/TDI/P1.7, 10 ~{{RST}/NMI/SBWTDIO}, 11 SBWTCK/TEST, 12 P2.7/XOUT, 13 P2.6/XIN/TA0.1, 14 VSS

## MSP430G2201IPW14
designator *  value MSP430G2201IPW14  Reference: U
ki_keywords: TI MSP430 16-bit mixed signal microcontroller; ki_description: 2kB Flash, 128B RAM, TSSOP-14; ki_fp_filters: TSSOP*4.4x5mm*P0.65mm*; Footprint: Package_SO:TSSOP-14_4.4x5mm_P0.65mm; Datasheet: http://www.ti.com/lit/ds/symlink/msp430g2201.pdf
pins: 1 VCC, 2 TA0CLK/ACLK/P1.0, 3 TA0.0/P1.1, 4 TA0.1/P1.2, 5 P1.3, 6 SMCLK/TCK/P1.4, 7 TA0.0/TMS/P1.5, 8 TA0.1/TDI/TCLK/P1.6, 9 TDO/TDI/P1.7, 10 ~{{RST}/NMI/SBWTDIO}, 11 SBWTCK/TEST, 12 P2.7/XOUT, 13 P2.6/XIN/TA0.1, 14 VSS

## MSP430G2201IRSA16
designator *  value MSP430G2201IRSA16  Reference: U
ki_keywords: TI MSP430 16-bit mixed signal microcontroller; ki_description: 2kB Flash, 128B RAM, QFN-16; ki_fp_filters: Texas*S?PVQFN*; Footprint: Package_DFN_QFN:Texas_S-PVQFN-N16_EP2.7x2.7mm; Datasheet: http://www.ti.com/lit/ds/symlink/msp430g2201.pdf
pins: 1 TA0CLK/ACLK/P1.0, 2 TA0.0/P1.1, 3 TA0.1/P1.2, 4 P1.3, 5 SMCLK/TCK/P1.4, 6 TA0.0/TMS/P1.5, 7 TA0.1/TDI/TCLK/P1.6, 8 TDO/TDI/P1.7, 9 ~{{RST}/NMI/SBWTDIO}, 10 SBWTCK/TEST, 11 P2.7/XOUT, 12 P2.6/XIN/TA0.1, 14 DVSS, 16 DVCC

## MSP430G2202IN20
designator *  value MSP430G2202IN20  Reference: U
ki_keywords: TI MSP430 16-bit mixed signal microcontroller; ki_description: 2kB Flash, 256B RAM, DIP-20; ki_fp_filters: DIP*W7.62mm*; Footprint: Package_DIP:DIP-20_W7.62mm; Datasheet: http://www.ti.com/lit/ds/symlink/msp430g2202.pdf
pins: 1 DVCC, 2 TA0CLK/ACLK/P1.0, 3 TA0.0/P1.1, 4 TA0.1/P1.2, 5 P1.3, 6 SMCLK/TCK/TA0.2/P1.4, 7 TMS/TA0.0/P1.5, 8 P2.0, 9 P2.1, 10 P2.2, 11 P2.3, 12 P2.4, 13 P2.5, 14 SDO/SCL/TDI/TCLK/TA0.1/P1.6, 15 SDI/SDA/TDO/TDI/P1.7, 16 ~{{RST}/NMI/SBWTDIO}, 17 SBWTCK/TEST, 18 P2.7/XOUT, 19 P2.6/XIN/TA0.1, 20 DVSS

## MSP430G2202IPW14
designator *  value MSP430G2202IPW14  Reference: U
ki_keywords: TI MSP430 16-bit mixed signal microcontroller; ki_description: 2kB Flash, 256B RAM, TSSOP-14; ki_fp_filters: TSSOP*4.4x5mm*P0.65mm*; Footprint: Package_SO:TSSOP-14_4.4x5mm_P0.65mm; Datasheet: http://www.ti.com/lit/ds/symlink/msp430g2202.pdf
pins: 1 DVCC, 2 TA0CLK/ACLK/P1.0, 3 TA0.0/P1.1, 4 TA0.1/P1.2, 5 P1.3, 6 SMCLK/TCK/TA0.2/P1.4, 7 TMS/SCLK/TA0.0/P1.5, 8 SDO/SCL/TDI/TCLK/TA0.1/P1.6, 9 SDI/SDA/TDO/TDI/P1.7, 10 ~{{RST}/NMI/SBWTDIO}, 11 SBWTCK/TEST, 12 P2.7/XOUT, 13 P2.6/XIN/TA0.1, 14 DVSS

## MSP430G2202IPW20
designator *  value MSP430G2202IPW20  Reference: U
ki_keywords: TI MSP430 16-bit mixed signal microcontroller; ki_description: 2kB Flash, 256B RAM, TSSOP-20; ki_fp_filters: TSSOP*4.4x6.5mm*P0.65mm*; Footprint: Package_SO:TSSOP-20_4.4x6.5mm_P0.65mm; Datasheet: http://www.ti.com/lit/ds/symlink/msp430g2202.pdf
pins: 1 DVCC, 2 TA0CLK/ACLK/P1.0, 3 TA0.0/P1.1, 4 TA0.1/P1.2, 5 P1.3, 6 SMCLK/TCK/TA0.2/P1.4, 7 TMS/TA0.0/P1.5, 8 P2.0, 9 P2.1, 10 P2.2, 11 P2.3, 12 P2.4, 13 P2.5, 14 SDO/SCL/TDI/TCLK/TA0.1/P1.6, 15 SDI/SDA/TDO/TDI/P1.7, 16 ~{{RST}/NMI/SBWTDIO}, 17 SBWTCK/TEST, 18 P2.7/XOUT, 19 P2.6/XIN/TA0.1, 20 DVSS

## MSP430G2202IRSA16
designator *  value MSP430G2202IRSA16  Reference: U
ki_keywords: TI MSP430 16-bit mixed signal microcontroller; ki_description: 2kB Flash, 256B RAM, QFN-16; ki_fp_filters: Texas*S?PVQFN*; Footprint: Package_DFN_QFN:Texas_S-PVQFN-N16_EP2.7x2.7mm; Datasheet: http://www.ti.com/lit/ds/symlink/msp430g2202.pdf
pins: 1 TA0CLK/ACLK/P1.0, 2 TA0.0/P1.1, 3 TA0.1/P1.2, 4 P1.3, 5 SMCLK/TCK/P1.4, 6 TMS/SCLK/TA0.0/P1.5, 7 SDO/SCL/TDI/TCLK/TA0.1/P1.6, 8 SDI/SDA/TDO/TDI/P1.7, 9 ~{{RST}/NMI/SBWTDIO}, 10 SBWTCK/TEST, 11 P2.7/XOUT, 12 P2.6/XIN/TA0.1, 13 AVSS, 14 DVSS, 15 AVCC, 16 DVCC

## MSP430G2203IN20
designator *  value MSP430G2203IN20  Reference: U
ki_keywords: TI MSP430 16-bit mixed signal microcontroller; ki_description: 2kB Flash, 256B RAM, DIP-20; ki_fp_filters: DIP*W7.62mm*; Footprint: Package_DIP:DIP-20_W7.62mm; Datasheet: http://www.ti.com/lit/ds/symlink/msp430g2203.pdf
pins: 1 DVCC, 2 TA0CLK/ACLK/CA0/P1.0, 3 TA0.0/UCA0RXD/UCA0SOMI/P1.1, 4 TA0.1/UCA0TXD/UCA0SIMO/P1.2, 5 P1.3, 6 TCK/SMCLK/UCB0STE/UCA0CLK/P1.4, 7 TMS/TA0.0/UCB0CLK/UCA0STE/P1.5, 8 P2.0/TA1.0, 9 P2.1/TA1.1, 10 P2.2/TA1.1, 11 P2.3/TA1.0, 12 P2.4/TA1.2, 13 P2.5/TA1.2, 14 TDI/TCLK/TA0.1/UCB0SOMI/UCB0SCL/P1.6, 15 TDO/TDI/UCB0SIMO/UCB0SDA/P1.7, 16 ~{{RST}/NMI/SBWTDIO}, 17 TEST/SBWTCK, 18 P2.7/XOUT, 19 P2.6/XIN/TA0.1, 20 DVSS

## MSP430G2203IPW20
designator *  value MSP430G2203IPW20  Reference: U
ki_keywords: TI MSP430 16-bit mixed signal microcontroller; ki_description: 2kB Flash, 256B RAM, TSSOP-20; ki_fp_filters: TSSOP*4.4x6.5mm*P0.65mm*; Footprint: Package_SO:TSSOP-20_4.4x6.5mm_P0.65mm; Datasheet: http://www.ti.com/lit/ds/symlink/msp430g2203.pdf
pins: 1 DVCC, 2 TA0CLK/ACLK/CA0/P1.0, 3 TA0.0/UCA0RXD/UCA0SOMI/P1.1, 4 TA0.1/UCA0TXD/UCA0SIMO/P1.2, 5 P1.3, 6 TCK/SMCLK/UCB0STE/UCA0CLK/P1.4, 7 TMS/TA0.0/UCB0CLK/UCA0STE/P1.5, 8 P2.0/TA1.0, 9 P2.1/TA1.1, 10 P2.2/TA1.1, 11 P2.3/TA1.0, 12 P2.4/TA1.2, 13 P2.5/TA1.2, 14 TDI/TCLK/TA0.1/UCB0SOMI/UCB0SCL/P1.6, 15 TDO/TDI/UCB0SIMO/UCB0SDA/P1.7, 16 ~{{RST}/NMI/SBWTDIO}, 17 TEST/SBWTCK, 18 P2.7/XOUT, 19 P2.6/XIN/TA0.1, 20 DVSS

## MSP430G2203IPW28
designator *  value MSP430G2203IPW28  Reference: U
ki_keywords: TI MSP430 16-bit mixed signal microcontroller; ki_description: 2kB Flash, 256B RAM, TSSOP-28; ki_fp_filters: TSSOP*4.4x9.7mm*P0.65mm*; Footprint: Package_SO:TSSOP-28_4.4x9.7mm_P0.65mm; Datasheet: http://www.ti.com/lit/ds/symlink/msp430g2203.pdf
pins: 1 DVCC, 2 TA0CLK/ACLK/CA0/P1.0, 3 TA0.0/UCA0RXD/UCA0SOMI/P1.1, 4 TA0.1/UCA0TXD/UCA0SIMO/P1.2, 5 P1.3, 6 TCK/SMCLK/UCB0STE/UCA0CLK/P1.4, 7 TMS/TA0.0/UCB0CLK/UCA0STE/P1.5, 8 P3.1/TA1.0, 9 P3.0/TA0.2, 10 TA1.0/P2.0, 11 TA1.1/P2.1, 12 TA1.1/P2.2, 13 P3.2/TA1.1, 14 P3.3/TA1.2, 15 P3.4/TA0.0, 16 TA1.0/P2.3, 17 TA1.2/P2.4, 18 TA1.2/P2.5, 19 P3.5/TA0.1, 20 P3.6/TA0.2, 21 P3.7/TA1CLK, 22 TDI/TCLK/TA0.1/UCB0SOMI/UCB0SCL/P1.6, 23 TDO/TDI/UCB0SIMO/UCB0SDA/P1.7, 24 ~{{RST}/NMI/SBWTDIO}, 25 TEST/SBWTCK, 26 XOUT/P2.7, 27 TA0.1/XIN/P2.6, 28 DVSS

## MSP430G2203IRHB32
designator *  value MSP430G2203IRHB32  Reference: U
ki_keywords: TI MSP430 16-bit mixed signal microcontroller; ki_description: 2kB Flash, 256B RAM, QFN-32; ki_fp_filters: Texas*S?PVQFN*; Footprint: Package_DFN_QFN:Texas_S-PVQFN-N32_EP3.45x3.45mm; Datasheet: http://www.ti.com/lit/ds/symlink/msp430g2203.pdf
pins: 1 TA0.0/UCA0RXD/UCA0SOMI/P1.1, 2 TA0.1/UCA0TXD/UCA0SIMO/P1.2, 3 P1.3, 4 TCK/SMCLK/UCB0STE/UCA0CLK/P1.4, 5 TMS/TA0.0/UCB0CLK/UCA0STE/P1.5, 6 P3.1/TA1.0, 7 P3.0/TA0.2, 9 TA1.0/P2.0, 10 TA1.1/P2.1, 11 TA1.1/P2.2, 12 P3.2/TA1.1, 13 P3.3/TA1.2, 14 P3.4/TA0.0, 15 TA1.0/P2.3, 16 TA1.2/P2.4, 17 TA1.2/P2.5, 18 P3.5/TA0.1, 19 P3.6/TA0.2, 20 P3.7/TA1CLK, 21 TDI/TCLK/TA0.1/UCB0SOMI/UCB0SCL/P1.6, 22 TDO/TDI/UCB0SIMO/UCB0SDA/P1.7, 23 ~{{RST}/NMI/SBWTDIO}, 24 TEST/SBWTCK, 25 XOUT/P2.7, 26 TA0.1/XIN/P2.6, 27 AVSS, 28 DVSS, 29 AVCC, 30 DVCC, 31 TA0CLK/ACLK/CA0/P1.0

## MSP430G2210ID
designator *  value MSP430G2210ID  Reference: U
ki_keywords: TI MSP430 16-bit mixed signal microcontroller; ki_description: 2kB + 256B Flash, 128B RAM, SOIC-8; ki_fp_filters: SOIC*3.9x4.9mm*P1.27mm*; Footprint: Package_SO:SOIC-8_3.9x4.9mm_P1.27mm; Datasheet: http://www.ti.com/lit/ds/symlink/msp430g2210.pdf
pins: 1 DVCC, 4 TA0.1/CA2/P1.2, 7 TA0.0/CA5/P1.5, 14 TA0.1/CA6/P1.6, 15 CAOUT/CA7/P1.7, 16 ~{{RST}/NMI/SBWTDIO}, 17 TEST/SBWTCK, 20 DVSS

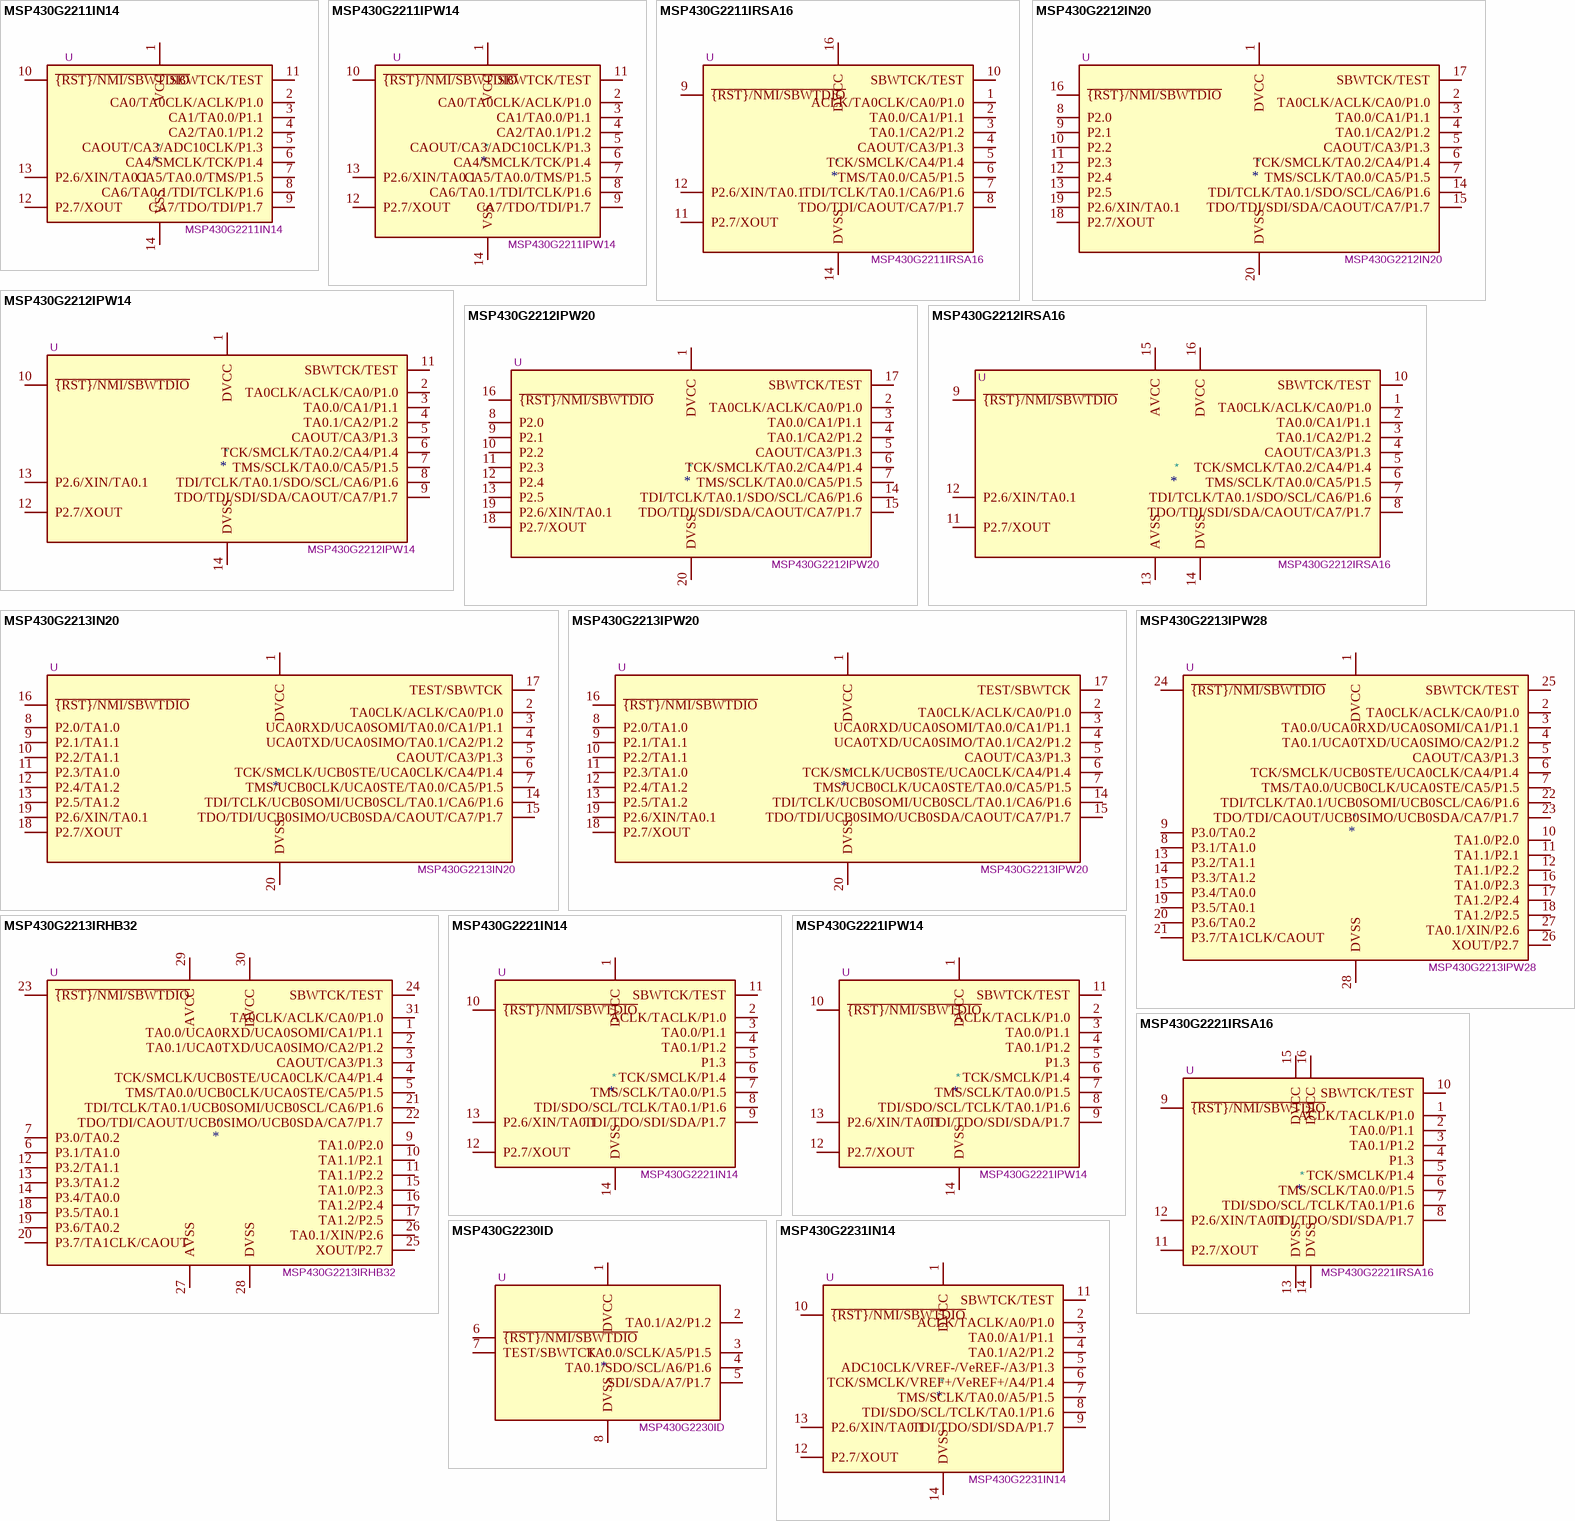
[diagram p24: symbols MSP430G2211IN14 to MSP430G2231IN14]

## MSP430G2211IN14
designator *  value MSP430G2211IN14  Reference: U
ki_keywords: TI MSP430 16-bit mixed signal microcontroller; ki_description: 2kB Flash, 128B RAM, DIP-14; ki_fp_filters: TSSOP*4.4x5mm*P0.65mm*; Footprint: Package_SO:TSSOP-14_4.4x5mm_P0.65mm; Datasheet: http://www.ti.com/lit/ds/symlink/msp430g2211.pdf
pins: 1 VCC, 2 CA0/TA0CLK/ACLK/P1.0, 3 CA1/TA0.0/P1.1, 4 CA2/TA0.1/P1.2, 5 CAOUT/CA3/ADC10CLK/P1.3, 6 CA4/SMCLK/TCK/P1.4, 7 CA5/TA0.0/TMS/P1.5, 8 CA6/TA0.1/TDI/TCLK/P1.6, 9 CA7/TDO/TDI/P1.7, 10 ~{{RST}/NMI/SBWTDIO}, 11 SBWTCK/TEST, 12 P2.7/XOUT, 13 P2.6/XIN/TA0.1, 14 VSS

## MSP430G2211IPW14
designator *  value MSP430G2211IPW14  Reference: U
ki_keywords: TI MSP430 16-bit mixed signal microcontroller; ki_description: 2kB Flash, 128B RAM, TSSOP-14; ki_fp_filters: TSSOP*4.4x5mm*P0.65mm*; Footprint: Package_SO:TSSOP-14_4.4x5mm_P0.65mm; Datasheet: http://www.ti.com/lit/ds/symlink/msp430g2211.pdf
pins: 1 VCC, 2 CA0/TA0CLK/ACLK/P1.0, 3 CA1/TA0.0/P1.1, 4 CA2/TA0.1/P1.2, 5 CAOUT/CA3/ADC10CLK/P1.3, 6 CA4/SMCLK/TCK/P1.4, 7 CA5/TA0.0/TMS/P1.5, 8 CA6/TA0.1/TDI/TCLK/P1.6, 9 CA7/TDO/TDI/P1.7, 10 ~{{RST}/NMI/SBWTDIO}, 11 SBWTCK/TEST, 12 P2.7/XOUT, 13 P2.6/XIN/TA0.1, 14 VSS

## MSP430G2211IRSA16
designator *  value MSP430G2211IRSA16  Reference: U
ki_keywords: TI MSP430 16-bit mixed signal microcontroller; ki_description: 2kB Flash, 128B RAM, QFN-16; ki_fp_filters: Texas*S?PVQFN*; Footprint: Package_DFN_QFN:Texas_S-PVQFN-N16_EP2.7x2.7mm; Datasheet: http://www.ti.com/lit/ds/symlink/msp430g2211.pdf
pins: 1 ACLK/TA0CLK/CA0/P1.0, 2 TA0.0/CA1/P1.1, 3 TA0.1/CA2/P1.2, 4 CAOUT/CA3/P1.3, 5 TCK/SMCLK/CA4/P1.4, 6 TMS/TA0.0/CA5/P1.5, 7 TDI/TCLK/TA0.1/CA6/P1.6, 8 TDO/TDI/CAOUT/CA7/P1.7, 9 ~{{RST}/NMI/SBWTDIO}, 10 SBWTCK/TEST, 11 P2.7/XOUT, 12 P2.6/XIN/TA0.1, 14 DVSS, 16 DVCC

## MSP430G2212IN20
designator *  value MSP430G2212IN20  Reference: U
ki_keywords: TI MSP430 16-bit mixed signal microcontroller; ki_description: 2kB Flash, 256B RAM, DIP-20; ki_fp_filters: DIP*W7.62mm*; Footprint: Package_DIP:DIP-20_W7.62mm; Datasheet: http://www.ti.com/lit/ds/symlink/msp430g2212.pdf
pins: 1 DVCC, 2 TA0CLK/ACLK/CA0/P1.0, 3 TA0.0/CA1/P1.1, 4 TA0.1/CA2/P1.2, 5 CAOUT/CA3/P1.3, 6 TCK/SMCLK/TA0.2/CA4/P1.4, 7 TMS/SCLK/TA0.0/CA5/P1.5, 8 P2.0, 9 P2.1, 10 P2.2, 11 P2.3, 12 P2.4, 13 P2.5, 14 TDI/TCLK/TA0.1/SDO/SCL/CA6/P1.6, 15 TDO/TDI/SDI/SDA/CAOUT/CA7/P1.7, 16 ~{{RST}/NMI/SBWTDIO}, 17 SBWTCK/TEST, 18 P2.7/XOUT, 19 P2.6/XIN/TA0.1, 20 DVSS

## MSP430G2212IPW14
designator *  value MSP430G2212IPW14  Reference: U
ki_keywords: TI MSP430 16-bit mixed signal microcontroller; ki_description: 2kB Flash, 256B RAM, TSSOP-14; ki_fp_filters: TSSOP*4.4x5mm*P0.65mm*; Footprint: Package_SO:TSSOP-14_4.4x5mm_P0.65mm; Datasheet: http://www.ti.com/lit/ds/symlink/msp430g2212.pdf
pins: 1 DVCC, 2 TA0CLK/ACLK/CA0/P1.0, 3 TA0.0/CA1/P1.1, 4 TA0.1/CA2/P1.2, 5 CAOUT/CA3/P1.3, 6 TCK/SMCLK/TA0.2/CA4/P1.4, 7 TMS/SCLK/TA0.0/CA5/P1.5, 8 TDI/TCLK/TA0.1/SDO/SCL/CA6/P1.6, 9 TDO/TDI/SDI/SDA/CAOUT/CA7/P1.7, 10 ~{{RST}/NMI/SBWTDIO}, 11 SBWTCK/TEST, 12 P2.7/XOUT, 13 P2.6/XIN/TA0.1, 14 DVSS

## MSP430G2212IPW20
designator *  value MSP430G2212IPW20  Reference: U
ki_keywords: TI MSP430 16-bit mixed signal microcontroller; ki_description: 2kB Flash, 256B RAM, TSSOP-20; ki_fp_filters: TSSOP*4.4x6.5mm*P0.65mm*; Footprint: Package_SO:TSSOP-20_4.4x6.5mm_P0.65mm; Datasheet: http://www.ti.com/lit/ds/symlink/msp430g2212.pdf
pins: 1 DVCC, 2 TA0CLK/ACLK/CA0/P1.0, 3 TA0.0/CA1/P1.1, 4 TA0.1/CA2/P1.2, 5 CAOUT/CA3/P1.3, 6 TCK/SMCLK/TA0.2/CA4/P1.4, 7 TMS/SCLK/TA0.0/CA5/P1.5, 8 P2.0, 9 P2.1, 10 P2.2, 11 P2.3, 12 P2.4, 13 P2.5, 14 TDI/TCLK/TA0.1/SDO/SCL/CA6/P1.6, 15 TDO/TDI/SDI/SDA/CAOUT/CA7/P1.7, 16 ~{{RST}/NMI/SBWTDIO}, 17 SBWTCK/TEST, 18 P2.7/XOUT, 19 P2.6/XIN/TA0.1, 20 DVSS

## MSP430G2212IRSA16
designator *  value MSP430G2212IRSA16  Reference: U
ki_keywords: TI MSP430 16-bit mixed signal microcontroller; ki_description: 2kB Flash, 256B RAM, QFN-16; ki_fp_filters: Texas*S?PVQFN*; Footprint: Package_DFN_QFN:Texas_S-PVQFN-N16_EP2.7x2.7mm; Datasheet: http://www.ti.com/lit/ds/symlink/msp430g2212.pdf
pins: 1 TA0CLK/ACLK/CA0/P1.0, 2 TA0.0/CA1/P1.1, 3 TA0.1/CA2/P1.2, 4 CAOUT/CA3/P1.3, 5 TCK/SMCLK/TA0.2/CA4/P1.4, 6 TMS/SCLK/TA0.0/CA5/P1.5, 7 TDI/TCLK/TA0.1/SDO/SCL/CA6/P1.6, 8 TDO/TDI/SDI/SDA/CAOUT/CA7/P1.7, 9 ~{{RST}/NMI/SBWTDIO}, 10 SBWTCK/TEST, 11 P2.7/XOUT, 12 P2.6/XIN/TA0.1, 13 AVSS, 14 DVSS, 15 AVCC, 16 DVCC

## MSP430G2213IN20
designator *  value MSP430G2213IN20  Reference: U
ki_keywords: TI MSP430 16-bit mixed signal microcontroller; ki_description: 2kB Flash, 256B RAM, DIP-20; ki_fp_filters: DIP*W7.62mm*; Footprint: Package_DIP:DIP-20_W7.62mm; Datasheet: http://www.ti.com/lit/ds/symlink/msp430g2213.pdf
pins: 1 DVCC, 2 TA0CLK/ACLK/CA0/P1.0, 3 UCA0RXD/UCA0SOMI/TA0.0/CA1/P1.1, 4 UCA0TXD/UCA0SIMO/TA0.1/CA2/P1.2, 5 CAOUT/CA3/P1.3, 6 TCK/SMCLK/UCB0STE/UCA0CLK/CA4/P1.4, 7 TMS/UCB0CLK/UCA0STE/TA0.0/CA5/P1.5, 8 P2.0/TA1.0, 9 P2.1/TA1.1, 10 P2.2/TA1.1, 11 P2.3/TA1.0, 12 P2.4/TA1.2, 13 P2.5/TA1.2, 14 TDI/TCLK/UCB0SOMI/UCB0SCL/TA0.1/CA6/P1.6, 15 TDO/TDI/UCB0SIMO/UCB0SDA/CAOUT/CA7/P1.7, 16 ~{{RST}/NMI/SBWTDIO}, 17 TEST/SBWTCK, 18 P2.7/XOUT, 19 P2.6/XIN/TA0.1, 20 DVSS

## MSP430G2213IPW20
designator *  value MSP430G2213IPW20  Reference: U
ki_keywords: TI MSP430 16-bit mixed signal microcontroller; ki_description: 2kB Flash, 256B RAM, TSSOP-20; ki_fp_filters: TSSOP*4.4x6.5mm*P0.65mm*; Footprint: Package_SO:TSSOP-20_4.4x6.5mm_P0.65mm; Datasheet: http://www.ti.com/lit/ds/symlink/msp430g2213.pdf
pins: 1 DVCC, 2 TA0CLK/ACLK/CA0/P1.0, 3 UCA0RXD/UCA0SOMI/TA0.0/CA1/P1.1, 4 UCA0TXD/UCA0SIMO/TA0.1/CA2/P1.2, 5 CAOUT/CA3/P1.3, 6 TCK/SMCLK/UCB0STE/UCA0CLK/CA4/P1.4, 7 TMS/UCB0CLK/UCA0STE/TA0.0/CA5/P1.5, 8 P2.0/TA1.0, 9 P2.1/TA1.1, 10 P2.2/TA1.1, 11 P2.3/TA1.0, 12 P2.4/TA1.2, 13 P2.5/TA1.2, 14 TDI/TCLK/UCB0SOMI/UCB0SCL/TA0.1/CA6/P1.6, 15 TDO/TDI/UCB0SIMO/UCB0SDA/CAOUT/CA7/P1.7, 16 ~{{RST}/NMI/SBWTDIO}, 17 TEST/SBWTCK, 18 P2.7/XOUT, 19 P2.6/XIN/TA0.1, 20 DVSS

## MSP430G2213IPW28
designator *  value MSP430G2213IPW28  Reference: U
ki_keywords: TI MSP430 16-bit mixed signal microcontroller; ki_description: 2kB Flash, 256B RAM, TSSOP-28; ki_fp_filters: TSSOP*4.4x9.7mm*P0.65mm*; Footprint: Package_SO:TSSOP-28_4.4x9.7mm_P0.65mm; Datasheet: http://www.ti.com/lit/ds/symlink/msp430g2213.pdf
pins: 1 DVCC, 2 TA0CLK/ACLK/CA0/P1.0, 3 TA0.0/UCA0RXD/UCA0SOMI/CA1/P1.1, 4 TA0.1/UCA0TXD/UCA0SIMO/CA2/P1.2, 5 CAOUT/CA3/P1.3, 6 TCK/SMCLK/UCB0STE/UCA0CLK/CA4/P1.4, 7 TMS/TA0.0/UCB0CLK/UCA0STE/CA5/P1.5, 8 P3.1/TA1.0, 9 P3.0/TA0.2, 10 TA1.0/P2.0, 11 TA1.1/P2.1, 12 TA1.1/P2.2, 13 P3.2/TA1.1, 14 P3.3/TA1.2, 15 P3.4/TA0.0, 16 TA1.0/P2.3, 17 TA1.2/P2.4, 18 TA1.2/P2.5, 19 P3.5/TA0.1, 20 P3.6/TA0.2, 21 P3.7/TA1CLK/CAOUT, 22 TDI/TCLK/TA0.1/UCB0SOMI/UCB0SCL/CA6/P1.6, 23 TDO/TDI/CAOUT/UCB0SIMO/UCB0SDA/CA7/P1.7, 24 ~{{RST}/NMI/SBWTDIO}, 25 SBWTCK/TEST, 26 XOUT/P2.7, 27 TA0.1/XIN/P2.6, 28 DVSS

## MSP430G2213IRHB32
designator *  value MSP430G2213IRHB32  Reference: U
ki_keywords: TI MSP430 16-bit mixed signal microcontroller; ki_description: 2kB Flash, 256B RAM, QFN-32; ki_fp_filters: Texas*S?PVQFN*; Footprint: Package_DFN_QFN:Texas_S-PVQFN-N32_EP3.45x3.45mm; Datasheet: http://www.ti.com/lit/ds/symlink/msp430g2213.pdf
pins: 1 TA0.0/UCA0RXD/UCA0SOMI/CA1/P1.1, 2 TA0.1/UCA0TXD/UCA0SIMO/CA2/P1.2, 3 CAOUT/CA3/P1.3, 4 TCK/SMCLK/UCB0STE/UCA0CLK/CA4/P1.4, 5 TMS/TA0.0/UCB0CLK/UCA0STE/CA5/P1.5, 6 P3.1/TA1.0, 7 P3.0/TA0.2, 9 TA1.0/P2.0, 10 TA1.1/P2.1, 11 TA1.1/P2.2, 12 P3.2/TA1.1, 13 P3.3/TA1.2, 14 P3.4/TA0.0, 15 TA1.0/P2.3, 16 TA1.2/P2.4, 17 TA1.2/P2.5, 18 P3.5/TA0.1, 19 P3.6/TA0.2, 20 P3.7/TA1CLK/CAOUT, 21 TDI/TCLK/TA0.1/UCB0SOMI/UCB0SCL/CA6/P1.6, 22 TDO/TDI/CAOUT/UCB0SIMO/UCB0SDA/CA7/P1.7, 23 ~{{RST}/NMI/SBWTDIO}, 24 SBWTCK/TEST, 25 XOUT/P2.7, 26 TA0.1/XIN/P2.6, 27 AVSS, 28 DVSS, 29 AVCC, 30 DVCC, 31 TA0CLK/ACLK/CA0/P1.0

## MSP430G2221IN14
designator *  value MSP430G2221IN14  Reference: U
ki_keywords: TI MSP430 16-bit mixed signal microcontroller; ki_description: 2kB Flash, 128B RAM, DIP-14; ki_fp_filters: TSSOP*4.4x5mm*P0.65mm*; Footprint: Package_SO:TSSOP-14_4.4x5mm_P0.65mm; Datasheet: http://www.ti.com/lit/ds/symlink/msp430g2221.pdf
pins: 1 DVCC, 2 ACLK/TACLK/P1.0, 3 TA0.0/P1.1, 4 TA0.1/P1.2, 5 P1.3, 6 TCK/SMCLK/P1.4, 7 TMS/SCLK/TA0.0/P1.5, 8 TDI/SDO/SCL/TCLK/TA0.1/P1.6, 9 TDI/TDO/SDI/SDA/P1.7, 10 ~{{RST}/NMI/SBWTDIO}, 11 SBWTCK/TEST, 12 P2.7/XOUT, 13 P2.6/XIN/TA0.1, 14 DVSS

## MSP430G2221IPW14
designator *  value MSP430G2221IPW14  Reference: U
ki_keywords: TI MSP430 16-bit mixed signal microcontroller; ki_description: 2kB Flash, 128B RAM, TSSOP-14; ki_fp_filters: TSSOP*4.4x5mm*P0.65mm*; Footprint: Package_SO:TSSOP-14_4.4x5mm_P0.65mm; Datasheet: http://www.ti.com/lit/ds/symlink/msp430g2221.pdf
pins: 1 DVCC, 2 ACLK/TACLK/P1.0, 3 TA0.0/P1.1, 4 TA0.1/P1.2, 5 P1.3, 6 TCK/SMCLK/P1.4, 7 TMS/SCLK/TA0.0/P1.5, 8 TDI/SDO/SCL/TCLK/TA0.1/P1.6, 9 TDI/TDO/SDI/SDA/P1.7, 10 ~{{RST}/NMI/SBWTDIO}, 11 SBWTCK/TEST, 12 P2.7/XOUT, 13 P2.6/XIN/TA0.1, 14 DVSS

## MSP430G2221IRSA16
designator *  value MSP430G2221IRSA16  Reference: U
ki_keywords: TI MSP430 16-bit mixed signal microcontroller; ki_description: 2kB Flash, 128B RAM, QFN-16; ki_fp_filters: Texas*S?PVQFN*; Footprint: Package_DFN_QFN:Texas_S-PVQFN-N16_EP2.7x2.7mm; Datasheet: http://www.ti.com/lit/ds/symlink/msp430g2221.pdf
pins: 1 ACLK/TACLK/P1.0, 2 TA0.0/P1.1, 3 TA0.1/P1.2, 4 P1.3, 5 TCK/SMCLK/P1.4, 6 TMS/SCLK/TA0.0/P1.5, 7 TDI/SDO/SCL/TCLK/TA0.1/P1.6, 8 TDI/TDO/SDI/SDA/P1.7, 9 ~{{RST}/NMI/SBWTDIO}, 10 SBWTCK/TEST, 11 P2.7/XOUT, 12 P2.6/XIN/TA0.1, 13 DVSS, 14 DVSS, 15 DVCC, 16 DVCC

## MSP430G2230ID
designator *  value MSP430G2230ID  Reference: U
ki_keywords: TI MSP430 16-bit mixed signal microcontroller; ki_description: 2kB + 256B Flash, 128B RAM, SOIC-8; ki_fp_filters: SOIC*3.9x4.9mm*P1.27mm*; Footprint: Package_SO:SOIC-8_3.9x4.9mm_P1.27mm; Datasheet: http://www.ti.com/lit/ds/symlink/msp430g2230.pdf
pins: 1 DVCC, 2 TA0.1/A2/P1.2, 3 TA0.0/SCLK/A5/P1.5, 4 TA0.1/SDO/SCL/A6/P1.6, 5 SDI/SDA/A7/P1.7, 6 ~{{RST}/NMI/SBWTDIO}, 7 TEST/SBWTCK, 8 DVSS

## MSP430G2231IN14
designator *  value MSP430G2231IN14  Reference: U
ki_keywords: TI MSP430 16-bit mixed signal microcontroller; ki_description: 2kB Flash, 128B RAM, DIP-14; ki_fp_filters: TSSOP*4.4x5mm*P0.65mm*; Footprint: Package_SO:TSSOP-14_4.4x5mm_P0.65mm; Datasheet: http://www.ti.com/lit/ds/symlink/msp430g2231.pdf
pins: 1 DVCC, 2 ACLK/TACLK/A0/P1.0, 3 TA0.0/A1/P1.1, 4 TA0.1/A2/P1.2, 5 ADC10CLK/VREF-/VeREF-/A3/P1.3, 6 TCK/SMCLK/VREF+/VeREF+/A4/P1.4, 7 TMS/SCLK/TA0.0/A5/P1.5, 8 TDI/SDO/SCL/TCLK/TA0.1/P1.6, 9 TDI/TDO/SDI/SDA/P1.7, 10 ~{{RST}/NMI/SBWTDIO}, 11 SBWTCK/TEST, 12 P2.7/XOUT, 13 P2.6/XIN/TA0.1, 14 DVSS

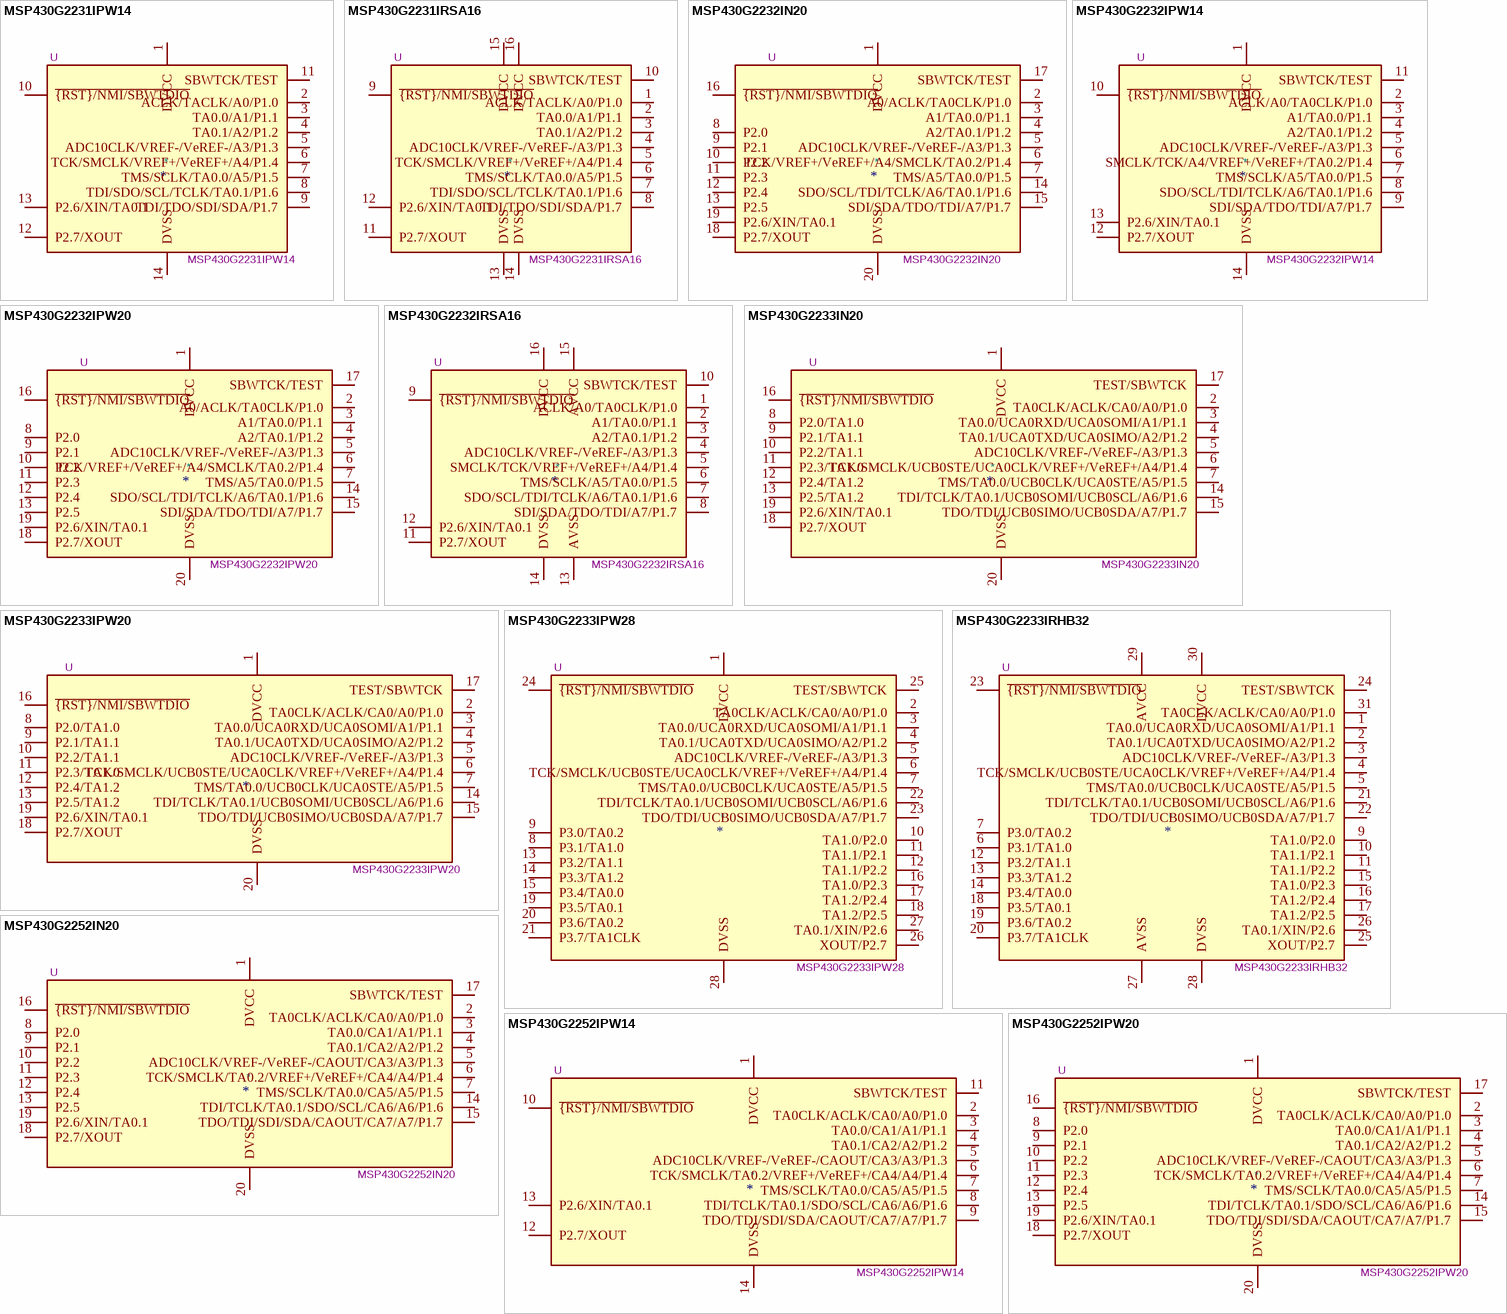
[diagram p25: symbols MSP430G2231IPW14 to MSP430G2252IPW20]

## MSP430G2231IPW14
designator *  value MSP430G2231IPW14  Reference: U
ki_keywords: TI MSP430 16-bit mixed signal microcontroller; ki_description: 2kB Flash, 128B RAM, TSSOP-14; ki_fp_filters: TSSOP*4.4x5mm*P0.65mm*; Footprint: Package_SO:TSSOP-14_4.4x5mm_P0.65mm; Datasheet: http://www.ti.com/lit/ds/symlink/msp430g2231.pdf
pins: 1 DVCC, 2 ACLK/TACLK/A0/P1.0, 3 TA0.0/A1/P1.1, 4 TA0.1/A2/P1.2, 5 ADC10CLK/VREF-/VeREF-/A3/P1.3, 6 TCK/SMCLK/VREF+/VeREF+/A4/P1.4, 7 TMS/SCLK/TA0.0/A5/P1.5, 8 TDI/SDO/SCL/TCLK/TA0.1/P1.6, 9 TDI/TDO/SDI/SDA/P1.7, 10 ~{{RST}/NMI/SBWTDIO}, 11 SBWTCK/TEST, 12 P2.7/XOUT, 13 P2.6/XIN/TA0.1, 14 DVSS

## MSP430G2231IRSA16
designator *  value MSP430G2231IRSA16  Reference: U
ki_keywords: TI MSP430 16-bit mixed signal microcontroller; ki_description: 2kB Flash, 128B RAM, QFN-16; ki_fp_filters: Texas*S?PVQFN*; Footprint: Package_DFN_QFN:Texas_S-PVQFN-N16_EP2.7x2.7mm; Datasheet: http://www.ti.com/lit/ds/symlink/msp430g2231.pdf
pins: 1 ACLK/TACLK/A0/P1.0, 2 TA0.0/A1/P1.1, 3 TA0.1/A2/P1.2, 4 ADC10CLK/VREF-/VeREF-/A3/P1.3, 5 TCK/SMCLK/VREF+/VeREF+/A4/P1.4, 6 TMS/SCLK/TA0.0/A5/P1.5, 7 TDI/SDO/SCL/TCLK/TA0.1/P1.6, 8 TDI/TDO/SDI/SDA/P1.7, 9 ~{{RST}/NMI/SBWTDIO}, 10 SBWTCK/TEST, 11 P2.7/XOUT, 12 P2.6/XIN/TA0.1, 13 DVSS, 14 DVSS, 15 DVCC, 16 DVCC

## MSP430G2232IN20
designator *  value MSP430G2232IN20  Reference: U
ki_keywords: TI MSP430 16-bit mixed signal microcontroller; ki_description: 2kB Flash, 256B RAM, DIP-20; ki_fp_filters: DIP*W7.62mm*; Footprint: Package_DIP:DIP-20_W7.62mm; Datasheet: http://www.ti.com/lit/ds/symlink/msp430g2232.pdf
pins: 1 DVCC, 2 A0/ACLK/TA0CLK/P1.0, 3 A1/TA0.0/P1.1, 4 A2/TA0.1/P1.2, 5 ADC10CLK/VREF-/VeREF-/A3/P1.3, 6 TCK/VREF+/VeREF+/A4/SMCLK/TA0.2/P1.4, 7 TMS/A5/TA0.0/P1.5, 8 P2.0, 9 P2.1, 10 P2.2, 11 P2.3, 12 P2.4, 13 P2.5, 14 SDO/SCL/TDI/TCLK/A6/TA0.1/P1.6, 15 SDI/SDA/TDO/TDI/A7/P1.7, 16 ~{{RST}/NMI/SBWTDIO}, 17 SBWTCK/TEST, 18 P2.7/XOUT, 19 P2.6/XIN/TA0.1, 20 DVSS

## MSP430G2232IPW14
designator *  value MSP430G2232IPW14  Reference: U
ki_keywords: TI MSP430 16-bit mixed signal microcontroller; ki_description: 2kB Flash, 256B RAM, TSSOP-14; ki_fp_filters: TSSOP*4.4x5mm*P0.65mm*; Footprint: Package_SO:TSSOP-14_4.4x5mm_P0.65mm; Datasheet: http://www.ti.com/lit/ds/symlink/msp430g2232.pdf
pins: 1 DVCC, 2 ACLK/A0/TA0CLK/P1.0, 3 A1/TA0.0/P1.1, 4 A2/TA0.1/P1.2, 5 ADC10CLK/VREF-/VeREF-/A3/P1.3, 6 SMCLK/TCK/A4/VREF+/VeREF+/TA0.2/P1.4, 7 TMS/SCLK/A5/TA0.0/P1.5, 8 SDO/SCL/TDI/TCLK/A6/TA0.1/P1.6, 9 SDI/SDA/TDO/TDI/A7/P1.7, 10 ~{{RST}/NMI/SBWTDIO}, 11 SBWTCK/TEST, 12 P2.7/XOUT, 13 P2.6/XIN/TA0.1, 14 DVSS

## MSP430G2232IPW20
designator *  value MSP430G2232IPW20  Reference: U
ki_keywords: TI MSP430 16-bit mixed signal microcontroller; ki_description: 2kB Flash, 256B RAM, TSSOP-20; ki_fp_filters: TSSOP*4.4x6.5mm*P0.65mm*; Footprint: Package_SO:TSSOP-20_4.4x6.5mm_P0.65mm; Datasheet: http://www.ti.com/lit/ds/symlink/msp430g2232.pdf
pins: 1 DVCC, 2 A0/ACLK/TA0CLK/P1.0, 3 A1/TA0.0/P1.1, 4 A2/TA0.1/P1.2, 5 ADC10CLK/VREF-/VeREF-/A3/P1.3, 6 TCK/VREF+/VeREF+/A4/SMCLK/TA0.2/P1.4, 7 TMS/A5/TA0.0/P1.5, 8 P2.0, 9 P2.1, 10 P2.2, 11 P2.3, 12 P2.4, 13 P2.5, 14 SDO/SCL/TDI/TCLK/A6/TA0.1/P1.6, 15 SDI/SDA/TDO/TDI/A7/P1.7, 16 ~{{RST}/NMI/SBWTDIO}, 17 SBWTCK/TEST, 18 P2.7/XOUT, 19 P2.6/XIN/TA0.1, 20 DVSS

## MSP430G2232IRSA16
designator *  value MSP430G2232IRSA16  Reference: U
ki_keywords: TI MSP430 16-bit mixed signal microcontroller; ki_description: 2kB Flash, 256B RAM, QFN-16; ki_fp_filters: Texas*S?PVQFN*; Footprint: Package_DFN_QFN:Texas_S-PVQFN-N16_EP2.7x2.7mm; Datasheet: http://www.ti.com/lit/ds/symlink/msp430g2232.pdf
pins: 1 ACLK/A0/TA0CLK/P1.0, 2 A1/TA0.0/P1.1, 3 A2/TA0.1/P1.2, 4 ADC10CLK/VREF-/VeREF-/A3/P1.3, 5 SMCLK/TCK/VREF+/VeREF+/A4/P1.4, 6 TMS/SCLK/A5/TA0.0/P1.5, 7 SDO/SCL/TDI/TCLK/A6/TA0.1/P1.6, 8 SDI/SDA/TDO/TDI/A7/P1.7, 9 ~{{RST}/NMI/SBWTDIO}, 10 SBWTCK/TEST, 11 P2.7/XOUT, 12 P2.6/XIN/TA0.1, 13 AVSS, 14 DVSS, 15 AVCC, 16 DVCC

## MSP430G2233IN20
designator *  value MSP430G2233IN20  Reference: U
ki_keywords: TI MSP430 16-bit mixed signal microcontroller; ki_description: 2kB Flash, 256B RAM, DIP-20; ki_fp_filters: DIP*W7.62mm*; Footprint: Package_DIP:DIP-20_W7.62mm; Datasheet: http://www.ti.com/lit/ds/symlink/msp430g2233.pdf
pins: 1 DVCC, 2 TA0CLK/ACLK/CA0/A0/P1.0, 3 TA0.0/UCA0RXD/UCA0SOMI/A1/P1.1, 4 TA0.1/UCA0TXD/UCA0SIMO/A2/P1.2, 5 ADC10CLK/VREF-/VeREF-/A3/P1.3, 6 TCK/SMCLK/UCB0STE/UCA0CLK/VREF+/VeREF+/A4/P1.4, 7 TMS/TA0.0/UCB0CLK/UCA0STE/A5/P1.5, 8 P2.0/TA1.0, 9 P2.1/TA1.1, 10 P2.2/TA1.1, 11 P2.3/TA1.0, 12 P2.4/TA1.2, 13 P2.5/TA1.2, 14 TDI/TCLK/TA0.1/UCB0SOMI/UCB0SCL/A6/P1.6, 15 TDO/TDI/UCB0SIMO/UCB0SDA/A7/P1.7, 16 ~{{RST}/NMI/SBWTDIO}, 17 TEST/SBWTCK, 18 P2.7/XOUT, 19 P2.6/XIN/TA0.1, 20 DVSS

## MSP430G2233IPW20
designator *  value MSP430G2233IPW20  Reference: U
ki_keywords: TI MSP430 16-bit mixed signal microcontroller; ki_description: 2kB Flash, 256B RAM, TSSOP-20; ki_fp_filters: TSSOP*4.4x6.5mm*P0.65mm*; Footprint: Package_SO:TSSOP-20_4.4x6.5mm_P0.65mm; Datasheet: http://www.ti.com/lit/ds/symlink/msp430g2233.pdf
pins: 1 DVCC, 2 TA0CLK/ACLK/CA0/A0/P1.0, 3 TA0.0/UCA0RXD/UCA0SOMI/A1/P1.1, 4 TA0.1/UCA0TXD/UCA0SIMO/A2/P1.2, 5 ADC10CLK/VREF-/VeREF-/A3/P1.3, 6 TCK/SMCLK/UCB0STE/UCA0CLK/VREF+/VeREF+/A4/P1.4, 7 TMS/TA0.0/UCB0CLK/UCA0STE/A5/P1.5, 8 P2.0/TA1.0, 9 P2.1/TA1.1, 10 P2.2/TA1.1, 11 P2.3/TA1.0, 12 P2.4/TA1.2, 13 P2.5/TA1.2, 14 TDI/TCLK/TA0.1/UCB0SOMI/UCB0SCL/A6/P1.6, 15 TDO/TDI/UCB0SIMO/UCB0SDA/A7/P1.7, 16 ~{{RST}/NMI/SBWTDIO}, 17 TEST/SBWTCK, 18 P2.7/XOUT, 19 P2.6/XIN/TA0.1, 20 DVSS

## MSP430G2233IPW28
designator *  value MSP430G2233IPW28  Reference: U
ki_keywords: TI MSP430 16-bit mixed signal microcontroller; ki_description: 2kB Flash, 256B RAM, TSSOP-28; ki_fp_filters: TSSOP*4.4x9.7mm*P0.65mm*; Footprint: Package_SO:TSSOP-28_4.4x9.7mm_P0.65mm; Datasheet: http://www.ti.com/lit/ds/symlink/msp430g2233.pdf
pins: 1 DVCC, 2 TA0CLK/ACLK/CA0/A0/P1.0, 3 TA0.0/UCA0RXD/UCA0SOMI/A1/P1.1, 4 TA0.1/UCA0TXD/UCA0SIMO/A2/P1.2, 5 ADC10CLK/VREF-/VeREF-/A3/P1.3, 6 TCK/SMCLK/UCB0STE/UCA0CLK/VREF+/VeREF+/A4/P1.4, 7 TMS/TA0.0/UCB0CLK/UCA0STE/A5/P1.5, 8 P3.1/TA1.0, 9 P3.0/TA0.2, 10 TA1.0/P2.0, 11 TA1.1/P2.1, 12 TA1.1/P2.2, 13 P3.2/TA1.1, 14 P3.3/TA1.2, 15 P3.4/TA0.0, 16 TA1.0/P2.3, 17 TA1.2/P2.4, 18 TA1.2/P2.5, 19 P3.5/TA0.1, 20 P3.6/TA0.2, 21 P3.7/TA1CLK, 22 TDI/TCLK/TA0.1/UCB0SOMI/UCB0SCL/A6/P1.6, 23 TDO/TDI/UCB0SIMO/UCB0SDA/A7/P1.7, 24 ~{{RST}/NMI/SBWTDIO}, 25 TEST/SBWTCK, 26 XOUT/P2.7, 27 TA0.1/XIN/P2.6, 28 DVSS

## MSP430G2233IRHB32
designator *  value MSP430G2233IRHB32  Reference: U
ki_keywords: TI MSP430 16-bit mixed signal microcontroller; ki_description: 2kB Flash, 256B RAM, QFN-32; ki_fp_filters: Texas*S?PVQFN*; Footprint: Package_DFN_QFN:Texas_S-PVQFN-N32_EP3.45x3.45mm; Datasheet: http://www.ti.com/lit/ds/symlink/msp430g2233.pdf
pins: 1 TA0.0/UCA0RXD/UCA0SOMI/A1/P1.1, 2 TA0.1/UCA0TXD/UCA0SIMO/A2/P1.2, 3 ADC10CLK/VREF-/VeREF-/A3/P1.3, 4 TCK/SMCLK/UCB0STE/UCA0CLK/VREF+/VeREF+/A4/P1.4, 5 TMS/TA0.0/UCB0CLK/UCA0STE/A5/P1.5, 6 P3.1/TA1.0, 7 P3.0/TA0.2, 9 TA1.0/P2.0, 10 TA1.1/P2.1, 11 TA1.1/P2.2, 12 P3.2/TA1.1, 13 P3.3/TA1.2, 14 P3.4/TA0.0, 15 TA1.0/P2.3, 16 TA1.2/P2.4, 17 TA1.2/P2.5, 18 P3.5/TA0.1, 19 P3.6/TA0.2, 20 P3.7/TA1CLK, 21 TDI/TCLK/TA0.1/UCB0SOMI/UCB0SCL/A6/P1.6, 22 TDO/TDI/UCB0SIMO/UCB0SDA/A7/P1.7, 23 ~{{RST}/NMI/SBWTDIO}, 24 TEST/SBWTCK, 25 XOUT/P2.7, 26 TA0.1/XIN/P2.6, 27 AVSS, 28 DVSS, 29 AVCC, 30 DVCC, 31 TA0CLK/ACLK/CA0/A0/P1.0

## MSP430G2252IN20
designator *  value MSP430G2252IN20  Reference: U
ki_keywords: TI MSP430 16-bit mixed signal microcontroller; ki_description: 2kB Flash, 256B RAM, DIP-20; ki_fp_filters: DIP*W7.62mm*; Footprint: Package_DIP:DIP-20_W7.62mm; Datasheet: http://www.ti.com/lit/ds/symlink/msp430g2252.pdf
pins: 1 DVCC, 2 TA0CLK/ACLK/CA0/A0/P1.0, 3 TA0.0/CA1/A1/P1.1, 4 TA0.1/CA2/A2/P1.2, 5 ADC10CLK/VREF-/VeREF-/CAOUT/CA3/A3/P1.3, 6 TCK/SMCLK/TA0.2/VREF+/VeREF+/CA4/A4/P1.4, 7 TMS/SCLK/TA0.0/CA5/A5/P1.5, 8 P2.0, 9 P2.1, 10 P2.2, 11 P2.3, 12 P2.4, 13 P2.5, 14 TDI/TCLK/TA0.1/SDO/SCL/CA6/A6/P1.6, 15 TDO/TDI/SDI/SDA/CAOUT/CA7/A7/P1.7, 16 ~{{RST}/NMI/SBWTDIO}, 17 SBWTCK/TEST, 18 P2.7/XOUT, 19 P2.6/XIN/TA0.1, 20 DVSS